# Altium schematic symbol library Lib_001.SchLib: 489 symbols (part 1 of 4)
Pins are listed as number, name and electrical type; pins without a type are passive.

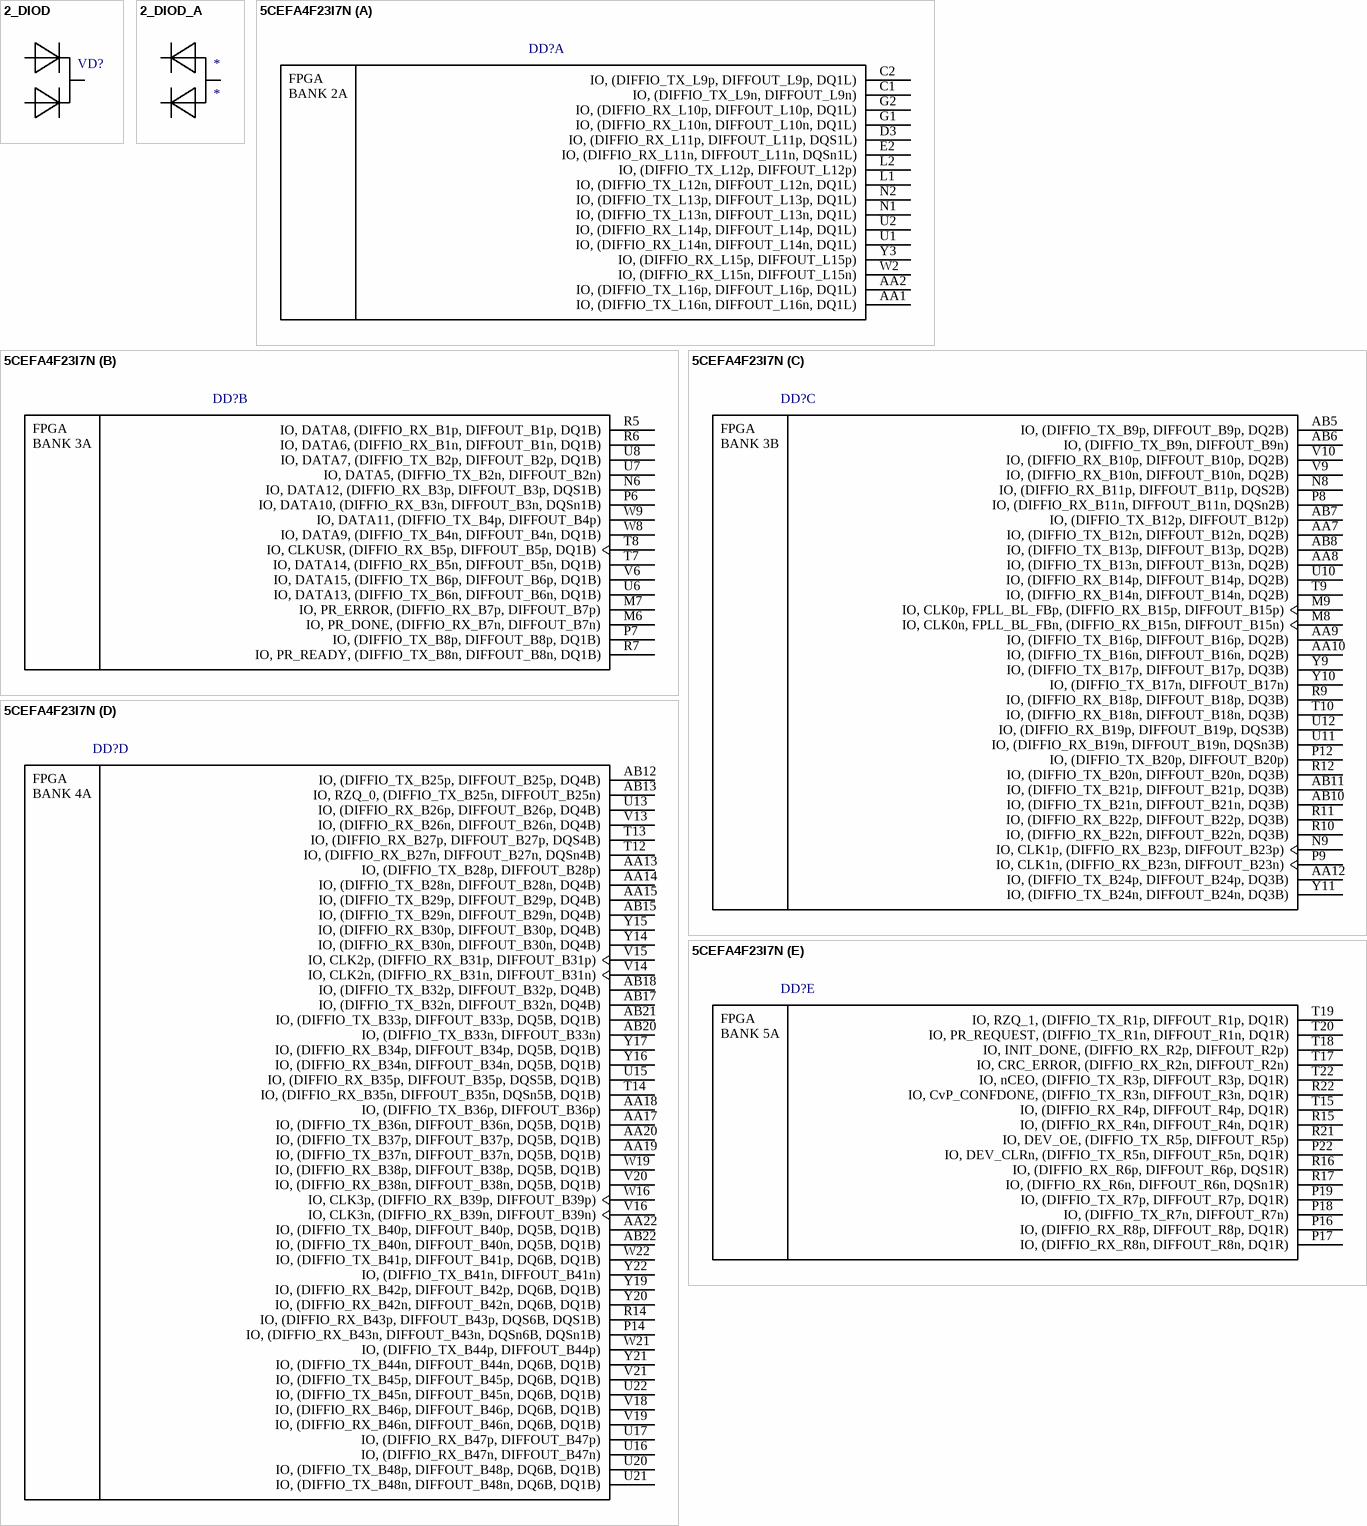
[diagram p0: symbols 2_DIOD to 5CEFA4F23I7N]

## 2_DIOD
designator VD?, comment 12СWQ10FN  (value not drawn)
value: 12СWQ10FN
footprint D2PAK (D2-PAK, 4-Leads, Body 8.8x10.4mm, Pitch 2.54mm, Lead Span 15.1mm, IPC Low Density)
pins: 1 A1, 2 C, 3 A2

## 2_DIOD_A
designator *
pins: 1 C1, 2 A, 3 C2

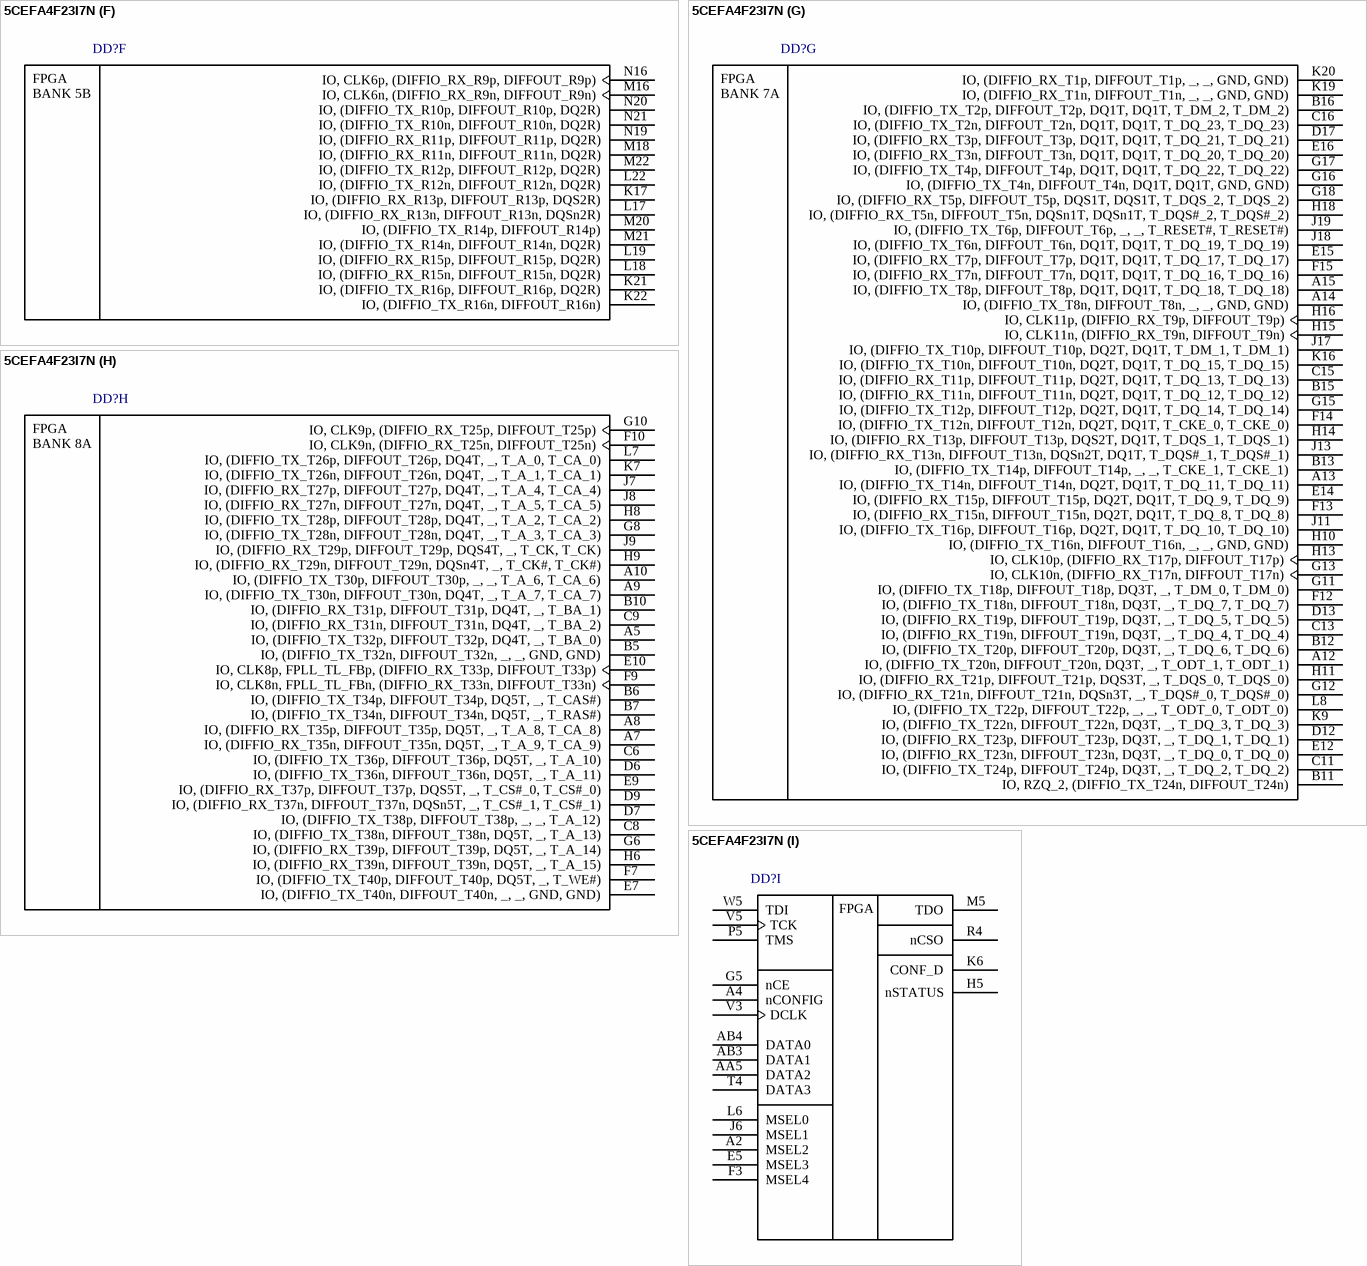
[diagram p1: symbol 5CEFA4F23I7N]

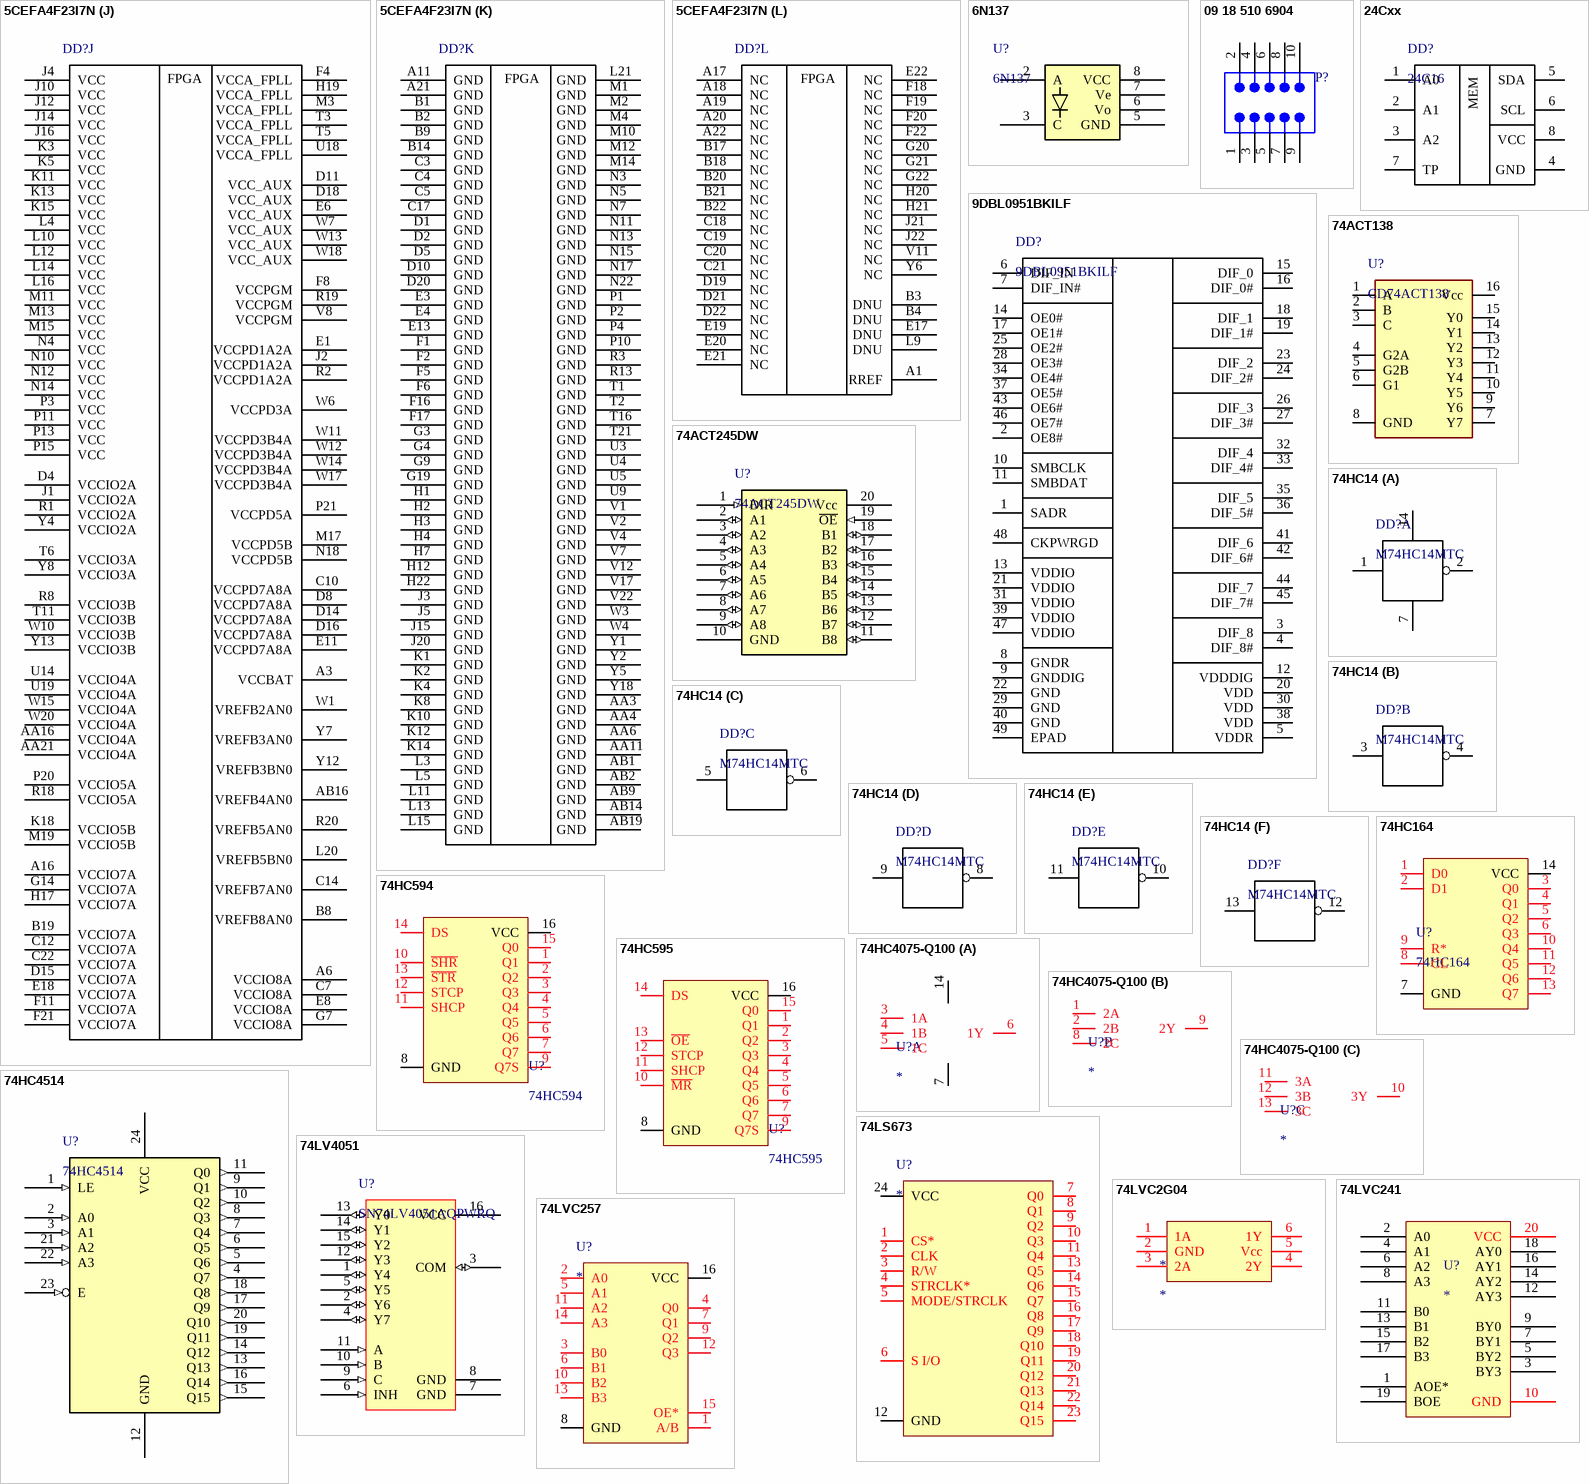
[diagram p2: symbols 5CEFA4F23I7N to 74LVC257]

## 5CEFA4F23I7N
designator DD?
Cyclone V E Family FPGA, 1.07 to 1.13 V Supply, 224 I/O Pins, 4 PLLs, 484-Pin FBGA, Speed Grade 7, Industrial Grade, RoHS Compliant; Manufacturer: Altera; Device Group: 5CEFA4; GPIO: 224; Logic Elements (LE) (K): 49; Speed Grade: 7; NexusDeviceID: 5CEFA4F23I7N; DatasheetVersion: Rev. 3.4; PackageVersion: Rev. 2.0, 12/2012; PackageReference: FBGA484_A-200; PackageDescription: 484-Pin FineLine Ball-Grid Array (FBGA), Body 23 x 23 mm, Pitch 1 mm; Supplier 1: Digi-Key; Supplier Part Number 1: 5CEFA4F23I7N-ND; Supplier 2: Mouser; Supplier Part Number 2: 989-5CEFA4F23I7N; RoHS: RoHS Compliant; Subcategory: Cyclone V E; Voltage Supply: 1.07 to 1.13 V; Mounting Technology: Surface Mount; Code_JEDEC: MS-034; PartNumber: 5CEFA4F23I7N; ComponentLink1Description: Manufacturer URL; ComponentLink1URL: http://www.altera.com; ComponentLink2Description: Datasheet; ComponentLink2URL: http://www.altera.com/literature/hb/cyclone-v/cv_51002.pdf; ComponentLink3Description: Package Specification; ComponentLink3URL: http://www.altera.com/devicepackaging/04R00434-01.pdf; ComponentLink4Description: Device Handbook URL; ComponentLink4URL: http://www.altera.com/literature/hb/cyclone-v/cyclone5_handbook.pdf; ComponentLink5Description: Device Pin-Out URL; ComponentLink5URL: http://www.altera.com/literature/dp/cyclone-v/5CEFA4.xls; ComponentLink6Description: Device Overview URL; ComponentLink6URL: http://www.altera.com/literature/hb/cyclone-v/cv_51001.pdf; ComponentLink7Description: Product URL; ComponentLink7URL: http://www.buyaltera.com/scripts/partsearch.dll?Detail&name=5CEFA4F23I7N-ND
footprint ALTR-FBGA484_A-200 (BGA, 484-Balls, Body 23x23mm, Pitch 1mm)
part A pins: AA1 IO, (DIFFIO_TX_L16n, DIFFOUT_L16n, DQ1L), AA2 IO, (DIFFIO_TX_L16p, DIFFOUT_L16p, DQ1L), C1 IO, (DIFFIO_TX_L9n, DIFFOUT_L9n), C2 IO, (DIFFIO_TX_L9p, DIFFOUT_L9p, DQ1L), D3 IO, (DIFFIO_RX_L11p, DIFFOUT_L11p, DQS1L), E2 IO, (DIFFIO_RX_L11n, DIFFOUT_L11n, DQSn1L), G1 IO, (DIFFIO_RX_L10n, DIFFOUT_L10n, DQ1L), G2 IO, (DIFFIO_RX_L10p, DIFFOUT_L10p, DQ1L), L1 IO, (DIFFIO_TX_L12n, DIFFOUT_L12n, DQ1L), L2 IO, (DIFFIO_TX_L12p, DIFFOUT_L12p), N1 IO, (DIFFIO_TX_L13n, DIFFOUT_L13n, DQ1L), N2 IO, (DIFFIO_TX_L13p, DIFFOUT_L13p, DQ1L), U1 IO, (DIFFIO_RX_L14n, DIFFOUT_L14n, DQ1L), U2 IO, (DIFFIO_RX_L14p, DIFFOUT_L14p, DQ1L), W2 IO, (DIFFIO_RX_L15n, DIFFOUT_L15n), Y3 IO, (DIFFIO_RX_L15p, DIFFOUT_L15p)
part B pins: M6 IO, PR_DONE, (DIFFIO_RX_B7n, DIFFOUT_B7n), M7 IO, PR_ERROR, (DIFFIO_RX_B7p, DIFFOUT_B7p), N6 IO, DATA12, (DIFFIO_RX_B3p, DIFFOUT_B3p, DQS1B), P6 IO, DATA10, (DIFFIO_RX_B3n, DIFFOUT_B3n, DQSn1B), P7 IO, (DIFFIO_TX_B8p, DIFFOUT_B8p, DQ1B), R5 IO, DATA8, (DIFFIO_RX_B1p, DIFFOUT_B1p, DQ1B), R6 IO, DATA6, (DIFFIO_RX_B1n, DIFFOUT_B1n, DQ1B), R7 IO, PR_READY, (DIFFIO_TX_B8n, DIFFOUT_B8n, DQ1B), T7 IO, DATA14, (DIFFIO_RX_B5n, DIFFOUT_B5n, DQ1B), T8 IO, CLKUSR, (DIFFIO_RX_B5p, DIFFOUT_B5p, DQ1B), U6 IO, DATA13, (DIFFIO_TX_B6n, DIFFOUT_B6n, DQ1B), U7 IO, DATA5, (DIFFIO_TX_B2n, DIFFOUT_B2n), U8 IO, DATA7, (DIFFIO_TX_B2p, DIFFOUT_B2p, DQ1B), V6 IO, DATA15, (DIFFIO_TX_B6p, DIFFOUT_B6p, DQ1B), W8 IO, DATA9, (DIFFIO_TX_B4n, DIFFOUT_B4n, DQ1B), W9 IO, DATA11, (DIFFIO_TX_B4p, DIFFOUT_B4p)
part C pins: AA7 IO, (DIFFIO_TX_B12n, DIFFOUT_B12n, DQ2B), AA8 IO, (DIFFIO_TX_B13n, DIFFOUT_B13n, DQ2B), AA9 IO, (DIFFIO_TX_B16p, DIFFOUT_B16p, DQ2B), AA10 IO, (DIFFIO_TX_B16n, DIFFOUT_B16n, DQ2B), AA12 IO, (DIFFIO_TX_B24p, DIFFOUT_B24p, DQ3B), AB5 IO, (DIFFIO_TX_B9p, DIFFOUT_B9p, DQ2B), AB6 IO, (DIFFIO_TX_B9n, DIFFOUT_B9n), AB7 IO, (DIFFIO_TX_B12p, DIFFOUT_B12p), AB8 IO, (DIFFIO_TX_B13p, DIFFOUT_B13p, DQ2B), AB10 IO, (DIFFIO_TX_B21n, DIFFOUT_B21n, DQ3B), AB11 IO, (DIFFIO_TX_B21p, DIFFOUT_B21p, DQ3B), M8 IO, CLK0n, FPLL_BL_FBn, (DIFFIO_RX_B15n, DIFFOUT_B15n), M9 IO, CLK0p, FPLL_BL_FBp, (DIFFIO_RX_B15p, DIFFOUT_B15p), N8 IO, (DIFFIO_RX_B11p, DIFFOUT_B11p, DQS2B), N9 IO, CLK1p, (DIFFIO_RX_B23p, DIFFOUT_B23p), P8 IO, (DIFFIO_RX_B11n, DIFFOUT_B11n, DQSn2B), P9 IO, CLK1n, (DIFFIO_RX_B23n, DIFFOUT_B23n), P12 IO, (DIFFIO_TX_B20p, DIFFOUT_B20p), R9 IO, (DIFFIO_RX_B18p, DIFFOUT_B18p, DQ3B), R10 IO, (DIFFIO_RX_B22n, DIFFOUT_B22n, DQ3B), R11 IO, (DIFFIO_RX_B22p, DIFFOUT_B22p, DQ3B), R12 IO, (DIFFIO_TX_B20n, DIFFOUT_B20n, DQ3B), T9 IO, (DIFFIO_RX_B14n, DIFFOUT_B14n, DQ2B), T10 IO, (DIFFIO_RX_B18n, DIFFOUT_B18n, DQ3B), U10 IO, (DIFFIO_RX_B14p, DIFFOUT_B14p, DQ2B), U11 IO, (DIFFIO_RX_B19n, DIFFOUT_B19n, DQSn3B), U12 IO, (DIFFIO_RX_B19p, DIFFOUT_B19p, DQS3B), V9 IO, (DIFFIO_RX_B10n, DIFFOUT_B10n, DQ2B), V10 IO, (DIFFIO_RX_B10p, DIFFOUT_B10p, DQ2B), Y9 IO, (DIFFIO_TX_B17p, DIFFOUT_B17p, DQ3B), Y10 IO, (DIFFIO_TX_B17n, DIFFOUT_B17n), Y11 IO, (DIFFIO_TX_B24n, DIFFOUT_B24n, DQ3B)
part D pins: AA13 IO, (DIFFIO_TX_B28p, DIFFOUT_B28p), AA14 IO, (DIFFIO_TX_B28n, DIFFOUT_B28n, DQ4B), AA15 IO, (DIFFIO_TX_B29p, DIFFOUT_B29p, DQ4B), AA17 IO, (DIFFIO_TX_B36n, DIFFOUT_B36n, DQ5B, DQ1B), AA18 IO, (DIFFIO_TX_B36p, DIFFOUT_B36p), AA19 IO, (DIFFIO_TX_B37n, DIFFOUT_B37n, DQ5B, DQ1B), AA20 IO, (DIFFIO_TX_B37p, DIFFOUT_B37p, DQ5B, DQ1B), AA22 IO, (DIFFIO_TX_B40p, DIFFOUT_B40p, DQ5B, DQ1B), AB12 IO, (DIFFIO_TX_B25p, DIFFOUT_B25p, DQ4B), AB13 IO, RZQ_0, (DIFFIO_TX_B25n, DIFFOUT_B25n), AB15 IO, (DIFFIO_TX_B29n, DIFFOUT_B29n, DQ4B), AB17 IO, (DIFFIO_TX_B32n, DIFFOUT_B32n, DQ4B), AB18 IO, (DIFFIO_TX_B32p, DIFFOUT_B32p, DQ4B), AB20 IO, (DIFFIO_TX_B33n, DIFFOUT_B33n), AB21 IO, (DIFFIO_TX_B33p, DIFFOUT_B33p, DQ5B, DQ1B), AB22 IO, (DIFFIO_TX_B40n, DIFFOUT_B40n, DQ5B, DQ1B), P14 IO, (DIFFIO_RX_B43n, DIFFOUT_B43n, DQSn6B, DQSn1B), R14 IO, (DIFFIO_RX_B43p, DIFFOUT_B43p, DQS6B, DQS1B), T12 IO, (DIFFIO_RX_B27n, DIFFOUT_B27n, DQSn4B), T13 IO, (DIFFIO_RX_B27p, DIFFOUT_B27p, DQS4B), T14 IO, (DIFFIO_RX_B35n, DIFFOUT_B35n, DQSn5B, DQ1B), U13 IO, (DIFFIO_RX_B26p, DIFFOUT_B26p, DQ4B), U15 IO, (DIFFIO_RX_B35p, DIFFOUT_B35p, DQS5B, DQ1B), U16 IO, (DIFFIO_RX_B47n, DIFFOUT_B47n), U17 IO, (DIFFIO_RX_B47p, DIFFOUT_B47p), U20 IO, (DIFFIO_TX_B48p, DIFFOUT_B48p, DQ6B, DQ1B), U21 IO, (DIFFIO_TX_B48n, DIFFOUT_B48n, DQ6B, DQ1B), U22 IO, (DIFFIO_TX_B45n, DIFFOUT_B45n, DQ6B, DQ1B), V13 IO, (DIFFIO_RX_B26n, DIFFOUT_B26n, DQ4B), V14 IO, CLK2n, (DIFFIO_RX_B31n, DIFFOUT_B31n), V15 IO, CLK2p, (DIFFIO_RX_B31p, DIFFOUT_B31p), V16 IO, CLK3n, (DIFFIO_RX_B39n, DIFFOUT_B39n), V18 IO, (DIFFIO_RX_B46p, DIFFOUT_B46p, DQ6B, DQ1B), V19 IO, (DIFFIO_RX_B46n, DIFFOUT_B46n, DQ6B, DQ1B), V20 IO, (DIFFIO_RX_B38n, DIFFOUT_B38n, DQ5B, DQ1B), V21 IO, (DIFFIO_TX_B45p, DIFFOUT_B45p, DQ6B, DQ1B), W16 IO, CLK3p, (DIFFIO_RX_B39p, DIFFOUT_B39p), W19 IO, (DIFFIO_RX_B38p, DIFFOUT_B38p, DQ5B, DQ1B), W21 IO, (DIFFIO_TX_B44p, DIFFOUT_B44p), W22 IO, (DIFFIO_TX_B41p, DIFFOUT_B41p, DQ6B, DQ1B), Y14 IO, (DIFFIO_RX_B30n, DIFFOUT_B30n, DQ4B), Y15 IO, (DIFFIO_RX_B30p, DIFFOUT_B30p, DQ4B), Y16 IO, (DIFFIO_RX_B34n, DIFFOUT_B34n, DQ5B, DQ1B), Y17 IO, (DIFFIO_RX_B34p, DIFFOUT_B34p, DQ5B, DQ1B), Y19 IO, (DIFFIO_RX_B42p, DIFFOUT_B42p, DQ6B, DQ1B), Y20 IO, (DIFFIO_RX_B42n, DIFFOUT_B42n, DQ6B, DQ1B), Y21 IO, (DIFFIO_TX_B44n, DIFFOUT_B44n, DQ6B, DQ1B), Y22 IO, (DIFFIO_TX_B41n, DIFFOUT_B41n)
part E pins: P16 IO, (DIFFIO_RX_R8p, DIFFOUT_R8p, DQ1R), P17 IO, (DIFFIO_RX_R8n, DIFFOUT_R8n, DQ1R), P18 IO, (DIFFIO_TX_R7n, DIFFOUT_R7n), P19 IO, (DIFFIO_TX_R7p, DIFFOUT_R7p, DQ1R), P22 IO, DEV_CLRn, (DIFFIO_TX_R5n, DIFFOUT_R5n, DQ1R), R15 IO, (DIFFIO_RX_R4n, DIFFOUT_R4n, DQ1R), R16 IO, (DIFFIO_RX_R6p, DIFFOUT_R6p, DQS1R), R17 IO, (DIFFIO_RX_R6n, DIFFOUT_R6n, DQSn1R), R21 IO, DEV_OE, (DIFFIO_TX_R5p, DIFFOUT_R5p), R22 IO, CvP_CONFDONE, (DIFFIO_TX_R3n, DIFFOUT_R3n, DQ1R), T15 IO, (DIFFIO_RX_R4p, DIFFOUT_R4p, DQ1R), T17 IO, CRC_ERROR, (DIFFIO_RX_R2n, DIFFOUT_R2n), T18 IO, INIT_DONE, (DIFFIO_RX_R2p, DIFFOUT_R2p), T19 IO, RZQ_1, (DIFFIO_TX_R1p, DIFFOUT_R1p, DQ1R), T20 IO, PR_REQUEST, (DIFFIO_TX_R1n, DIFFOUT_R1n, DQ1R), T22 IO, nCEO, (DIFFIO_TX_R3p, DIFFOUT_R3p, DQ1R)
part F pins: K17 IO, (DIFFIO_RX_R13p, DIFFOUT_R13p, DQS2R), K21 IO, (DIFFIO_TX_R16p, DIFFOUT_R16p, DQ2R), K22 IO, (DIFFIO_TX_R16n, DIFFOUT_R16n), L17 IO, (DIFFIO_RX_R13n, DIFFOUT_R13n, DQSn2R), L18 IO, (DIFFIO_RX_R15n, DIFFOUT_R15n, DQ2R), L19 IO, (DIFFIO_RX_R15p, DIFFOUT_R15p, DQ2R), L22 IO, (DIFFIO_TX_R12n, DIFFOUT_R12n, DQ2R), M16 IO, CLK6n, (DIFFIO_RX_R9n, DIFFOUT_R9n), M18 IO, (DIFFIO_RX_R11n, DIFFOUT_R11n, DQ2R), M20 IO, (DIFFIO_TX_R14p, DIFFOUT_R14p), M21 IO, (DIFFIO_TX_R14n, DIFFOUT_R14n, DQ2R), M22 IO, (DIFFIO_TX_R12p, DIFFOUT_R12p, DQ2R), N16 IO, CLK6p, (DIFFIO_RX_R9p, DIFFOUT_R9p), N19 IO, (DIFFIO_RX_R11p, DIFFOUT_R11p, DQ2R), N20 IO, (DIFFIO_TX_R10p, DIFFOUT_R10p, DQ2R), N21 IO, (DIFFIO_TX_R10n, DIFFOUT_R10n, DQ2R)
part G pins: A12 IO, (DIFFIO_TX_T20n, DIFFOUT_T20n, DQ3T, _, T_ODT_1, T_ODT_1), A13 IO, (DIFFIO_TX_T14n, DIFFOUT_T14n, DQ2T, DQ1T, T_DQ_11, T_DQ_11), A14 IO, (DIFFIO_TX_T8n, DIFFOUT_T8n, _, _, GND, GND), A15 IO, (DIFFIO_TX_T8p, DIFFOUT_T8p, DQ1T, DQ1T, T_DQ_18, T_DQ_18), B11 IO, RZQ_2, (DIFFIO_TX_T24n, DIFFOUT_T24n), B12 IO, (DIFFIO_TX_T20p, DIFFOUT_T20p, DQ3T, _, T_DQ_6, T_DQ_6), B13 IO, (DIFFIO_TX_T14p, DIFFOUT_T14p, _, _, T_CKE_1, T_CKE_1), B15 IO, (DIFFIO_RX_T11n, DIFFOUT_T11n, DQ2T, DQ1T, T_DQ_12, T_DQ_12), B16 IO, (DIFFIO_TX_T2p, DIFFOUT_T2p, DQ1T, DQ1T, T_DM_2, T_DM_2), C11 IO, (DIFFIO_TX_T24p, DIFFOUT_T24p, DQ3T, _, T_DQ_2, T_DQ_2), C13 IO, (DIFFIO_RX_T19n, DIFFOUT_T19n, DQ3T, _, T_DQ_4, T_DQ_4), C15 IO, (DIFFIO_RX_T11p, DIFFOUT_T11p, DQ2T, DQ1T, T_DQ_13, T_DQ_13), C16 IO, (DIFFIO_TX_T2n, DIFFOUT_T2n, DQ1T, DQ1T, T_DQ_23, T_DQ_23), D12 IO, (DIFFIO_RX_T23p, DIFFOUT_T23p, DQ3T, _, T_DQ_1, T_DQ_1), D13 IO, (DIFFIO_RX_T19p, DIFFOUT_T19p, DQ3T, _, T_DQ_5, T_DQ_5), D17 IO, (DIFFIO_RX_T3p, DIFFOUT_T3p, DQ1T, DQ1T, T_DQ_21, T_DQ_21), E12 IO, (DIFFIO_RX_T23n, DIFFOUT_T23n, DQ3T, _, T_DQ_0, T_DQ_0), E14 IO, (DIFFIO_RX_T15p, DIFFOUT_T15p, DQ2T, DQ1T, T_DQ_9, T_DQ_9), E15 IO, (DIFFIO_RX_T7p, DIFFOUT_T7p, DQ1T, DQ1T, T_DQ_17, T_DQ_17), E16 IO, (DIFFIO_RX_T3n, DIFFOUT_T3n, DQ1T, DQ1T, T_DQ_20, T_DQ_20), F12 IO, (DIFFIO_TX_T18n, DIFFOUT_T18n, DQ3T, _, T_DQ_7, T_DQ_7), F13 IO, (DIFFIO_RX_T15n, DIFFOUT_T15n, DQ2T, DQ1T, T_DQ_8, T_DQ_8), F14 IO, (DIFFIO_TX_T12n, DIFFOUT_T12n, DQ2T, DQ1T, T_CKE_0, T_CKE_0), F15 IO, (DIFFIO_RX_T7n, DIFFOUT_T7n, DQ1T, DQ1T, T_DQ_16, T_DQ_16), G11 IO, (DIFFIO_TX_T18p, DIFFOUT_T18p, DQ3T, _, T_DM_0, T_DM_0), G12 IO, (DIFFIO_RX_T21n, DIFFOUT_T21n, DQSn3T, _, T_DQS#_0, T_DQS#_0), G13 IO, CLK10n, (DIFFIO_RX_T17n, DIFFOUT_T17n), G15 IO, (DIFFIO_TX_T12p, DIFFOUT_T12p, DQ2T, DQ1T, T_DQ_14, T_DQ_14), G16 IO, (DIFFIO_TX_T4n, DIFFOUT_T4n, DQ1T, DQ1T, GND, GND), G17 IO, (DIFFIO_TX_T4p, DIFFOUT_T4p, DQ1T, DQ1T, T_DQ_22, T_DQ_22), G18 IO, (DIFFIO_RX_T5p, DIFFOUT_T5p, DQS1T, DQS1T, T_DQS_2, T_DQS_2), H10 IO, (DIFFIO_TX_T16n, DIFFOUT_T16n, _, _, GND, GND), H11 IO, (DIFFIO_RX_T21p, DIFFOUT_T21p, DQS3T, _, T_DQS_0, T_DQS_0), H13 IO, CLK10p, (DIFFIO_RX_T17p, DIFFOUT_T17p), H14 IO, (DIFFIO_RX_T13p, DIFFOUT_T13p, DQS2T, DQ1T, T_DQS_1, T_DQS_1), H15 IO, CLK11n, (DIFFIO_RX_T9n, DIFFOUT_T9n), H16 IO, CLK11p, (DIFFIO_RX_T9p, DIFFOUT_T9p), H18 IO, (DIFFIO_RX_T5n, DIFFOUT_T5n, DQSn1T, DQSn1T, T_DQS#_2, T_DQS#_2), J11 IO, (DIFFIO_TX_T16p, DIFFOUT_T16p, DQ2T, DQ1T, T_DQ_10, T_DQ_10), J13 IO, (DIFFIO_RX_T13n, DIFFOUT_T13n, DQSn2T, DQ1T, T_DQS#_1, T_DQS#_1), J17 IO, (DIFFIO_TX_T10p, DIFFOUT_T10p, DQ2T, DQ1T, T_DM_1, T_DM_1), J18 IO, (DIFFIO_TX_T6n, DIFFOUT_T6n, DQ1T, DQ1T, T_DQ_19, T_DQ_19), J19 IO, (DIFFIO_TX_T6p, DIFFOUT_T6p, _, _, T_RESET#, T_RESET#), K9 IO, (DIFFIO_TX_T22n, DIFFOUT_T22n, DQ3T, _, T_DQ_3, T_DQ_3), K16 IO, (DIFFIO_TX_T10n, DIFFOUT_T10n, DQ2T, DQ1T, T_DQ_15, T_DQ_15), K19 IO, (DIFFIO_RX_T1n, DIFFOUT_T1n, _, _, GND, GND), K20 IO, (DIFFIO_RX_T1p, DIFFOUT_T1p, _, _, GND, GND), L8 IO, (DIFFIO_TX_T22p, DIFFOUT_T22p, _, _, T_ODT_0, T_ODT_0)
part H pins: A5 IO, (DIFFIO_TX_T32p, DIFFOUT_T32p, DQ4T, _, T_BA_0), A7 IO, (DIFFIO_RX_T35n, DIFFOUT_T35n, DQ5T, _, T_A_9, T_CA_9), A8 IO, (DIFFIO_RX_T35p, DIFFOUT_T35p, DQ5T, _, T_A_8, T_CA_8), A9 IO, (DIFFIO_TX_T30n, DIFFOUT_T30n, DQ4T, _, T_A_7, T_CA_7), A10 IO, (DIFFIO_TX_T30p, DIFFOUT_T30p, _, _, T_A_6, T_CA_6), B5 IO, (DIFFIO_TX_T32n, DIFFOUT_T32n, _, _, GND, GND), B6 IO, (DIFFIO_TX_T34p, DIFFOUT_T34p, DQ5T, _, T_CAS#), B7 IO, (DIFFIO_TX_T34n, DIFFOUT_T34n, DQ5T, _, T_RAS#), B10 IO, (DIFFIO_RX_T31p, DIFFOUT_T31p, DQ4T, _, T_BA_1), C6 IO, (DIFFIO_TX_T36p, DIFFOUT_T36p, DQ5T, _, T_A_10), C8 IO, (DIFFIO_TX_T38n, DIFFOUT_T38n, DQ5T, _, T_A_13), C9 IO, (DIFFIO_RX_T31n, DIFFOUT_T31n, DQ4T, _, T_BA_2), D6 IO, (DIFFIO_TX_T36n, DIFFOUT_T36n, DQ5T, _, T_A_11), D7 IO, (DIFFIO_TX_T38p, DIFFOUT_T38p, _, _, T_A_12), D9 IO, (DIFFIO_RX_T37n, DIFFOUT_T37n, DQSn5T, _, T_CS#_1, T_CS#_1), E7 IO, (DIFFIO_TX_T40n, DIFFOUT_T40n, _, _, GND, GND), E9 IO, (DIFFIO_RX_T37p, DIFFOUT_T37p, DQS5T, _, T_CS#_0, T_CS#_0), E10 IO, CLK8p, FPLL_TL_FBp, (DIFFIO_RX_T33p, DIFFOUT_T33p), F7 IO, (DIFFIO_TX_T40p, DIFFOUT_T40p, DQ5T, _, T_WE#), F9 IO, CLK8n, FPLL_TL_FBn, (DIFFIO_RX_T33n, DIFFOUT_T33n), F10 IO, CLK9n, (DIFFIO_RX_T25n, DIFFOUT_T25n), G6 IO, (DIFFIO_RX_T39p, DIFFOUT_T39p, DQ5T, _, T_A_14), G8 IO, (DIFFIO_TX_T28n, DIFFOUT_T28n, DQ4T, _, T_A_3, T_CA_3), G10 IO, CLK9p, (DIFFIO_RX_T25p, DIFFOUT_T25p), H6 IO, (DIFFIO_RX_T39n, DIFFOUT_T39n, DQ5T, _, T_A_15), H8 IO, (DIFFIO_TX_T28p, DIFFOUT_T28p, DQ4T, _, T_A_2, T_CA_2), H9 IO, (DIFFIO_RX_T29n, DIFFOUT_T29n, DQSn4T, _, T_CK#, T_CK#), J7 IO, (DIFFIO_RX_T27p, DIFFOUT_T27p, DQ4T, _, T_A_4, T_CA_4), J8 IO, (DIFFIO_RX_T27n, DIFFOUT_T27n, DQ4T, _, T_A_5, T_CA_5), J9 IO, (DIFFIO_RX_T29p, DIFFOUT_T29p, DQS4T, _, T_CK, T_CK), K7 IO, (DIFFIO_TX_T26n, DIFFOUT_T26n, DQ4T, _, T_A_1, T_CA_1), L7 IO, (DIFFIO_TX_T26p, DIFFOUT_T26p, DQ4T, _, T_A_0, T_CA_0)
part I pins: A2 MSEL2, A4 nCONFIG, AA5 DATA2, AB3 DATA1, AB4 DATA0, E5 MSEL3, F3 MSEL4, G5 nCE, H5 nSTATUS, J6 MSEL1, K6 CONF_D, L6 MSEL0, M5 TDO, P5 TMS, R4 nCSO, T4 DATA3, V3 DCLK, V5 TCK, W5 TDI
part J pins: A3 VCCBAT (power), A6 VCCIO8A (power), A16 VCCIO7A (power), AA16 VCCIO4A (power), AA21 VCCIO4A (power), AB16 VREFB4AN0 (power), B8 VREFB8AN0 (power), B19 VCCIO7A (power), C7 VCCIO8A (power), C10 VCCPD7A8A (power), C12 VCCIO7A (power), C14 VREFB7AN0 (power), C22 VCCIO7A (power), D4 VCCIO2A (power), D8 VCCPD7A8A (power), D11 VCC_AUX (power), D14 VCCPD7A8A (power), D15 VCCIO7A (power), D16 VCCPD7A8A (power), D18 VCC_AUX (power), E1 VCCPD1A2A (power), E6 VCC_AUX (power), E8 VCCIO8A (power), E11 VCCPD7A8A (power), E18 VCCIO7A (power), F4 VCCA_FPLL (power), F8 VCCPGM (power), F11 VCCIO7A (power), F21 VCCIO7A (power), G7 VCCIO8A (power), G14 VCCIO7A (power), H17 VCCIO7A (power), H19 VCCA_FPLL (power), J1 VCCIO2A (power), J2 VCCPD1A2A (power), J4 VCC (power), J10 VCC (power), J12 VCC (power), J14 VCC (power), J16 VCC (power), K3 VCC (power), K5 VCC (power), K11 VCC (power), K13 VCC (power), K15 VCC (power), K18 VCCIO5B (power), L4 VCC (power), L10 VCC (power), L12 VCC (power), L14 VCC (power), L16 VCC (power), L20 VREFB5BN0 (power), M3 VCCA_FPLL (power), M11 VCC (power), M13 VCC (power), M15 VCC (power), M17 VCCPD5B (power), M19 VCCIO5B (power), N4 VCC (power), N10 VCC (power), N12 VCC (power), N14 VCC (power), N18 VCCPD5B (power), P3 VCC (power), P11 VCC (power), P13 VCC (power), P15 VCC (power), P20 VCCIO5A (power), P21 VCCPD5A (power), R1 VCCIO2A (power), R2 VCCPD1A2A (power), R8 VCCIO3B (power), R18 VCCIO5A (power), R19 VCCPGM (power), R20 VREFB5AN0 (power), T3 VCCA_FPLL (power), T5 VCCA_FPLL (power), T6 VCCIO3A (power), T11 VCCIO3B (power), U14 VCCIO4A (power), U18 VCCA_FPLL (power), U19 VCCIO4A (power), V8 VCCPGM (power), W1 VREFB2AN0 (power), W6 VCCPD3A (power), W7 VCC_AUX (power), W10 VCCIO3B (power), W11 VCCPD3B4A (power), W12 VCCPD3B4A (power), W13 VCC_AUX (power), W14 VCCPD3B4A (power), W15 VCCIO4A (power), W17 VCCPD3B4A (power), W18 VCC_AUX (power), W20 VCCIO4A (power), Y4 VCCIO2A (power), Y7 VREFB3AN0 (power), Y8 VCCIO3A (power), Y12 VREFB3BN0 (power), Y13 VCCIO3B (power)
part K pins: A11 GND (power), A21 GND (power), AA3 GND (power), AA4 GND (power), AA6 GND (power), AA11 GND (power), AB1 GND (power), AB2 GND (power), AB9 GND (power), AB14 GND (power), AB19 GND (power), B1 GND (power), B2 GND (power), B9 GND (power), B14 GND (power), C3 GND (power), C4 GND (power), C5 GND (power), C17 GND (power), D1 GND (power), D2 GND (power), D5 GND (power), D10 GND (power), D20 GND (power), E3 GND (power), E4 GND (power), E13 GND (power), F1 GND (power), F2 GND (power), F5 GND (power), F6 GND (power), F16 GND (power), F17 GND (power), G3 GND (power), G4 GND (power), G9 GND (power), G19 GND (power), H1 GND (power), H2 GND (power), H3 GND (power), H4 GND (power), H7 GND (power), H12 GND (power), H22 GND (power), J3 GND (power), J5 GND (power), J15 GND (power), J20 GND (power), K1 GND (power), K2 GND (power), K4 GND (power), K8 GND (power), K10 GND (power), K12 GND (power), K14 GND (power), L3 GND (power), L5 GND (power), L11 GND (power), L13 GND (power), L15 GND (power), L21 GND (power), M1 GND (power), M2 GND (power), M4 GND (power), M10 GND (power), M12 GND (power), M14 GND (power), N3 GND (power), N5 GND (power), N7 GND (power), N11 GND (power), N13 GND (power), N15 GND (power), N17 GND (power), N22 GND (power), P1 GND (power), P2 GND (power), P4 GND (power), P10 GND (power), R3 GND (power), R13 GND (power), T1 GND (power), T2 GND (power), T16 GND (power), T21 GND (power), U3 GND (power), U4 GND (power), U5 GND (power), U9 GND (power), V1 GND (power), V2 GND (power), V4 GND (power), V7 GND (power), V12 GND (power), V17 GND (power), V22 GND (power), W3 GND (power), W4 GND (power), Y1 GND (power), Y2 GND (power), Y5 GND (power), Y18 GND (power)
part L pins: A1 RREF, A17 NC, A18 NC, A19 NC, A20 NC, A22 NC, B3 DNU, B4 DNU, B17 NC, B18 NC, B20 NC, B21 NC, B22 NC, C18 NC, C19 NC, C20 NC, C21 NC, D19 NC, D21 NC, D22 NC, E17 DNU, E19 NC, E20 NC, E21 NC, E22 NC, F18 NC, F19 NC, F20 NC, F22 NC, G20 NC, G21 NC, G22 NC, H20 NC, H21 NC, J21 NC, J22 NC, L9 DNU, V11 NC, Y6 NC
part A text: FPGA; BANK 2A
part B text: FPGA; BANK 3A
part C text: FPGA; BANK 3B
part D text: FPGA; BANK 4A
part E text: FPGA; BANK 5A
part F text: FPGA; BANK 5B
part G text: FPGA; BANK 7A
part H text: FPGA; BANK 8A
part I text: FPGA
part J text: FPGA
part K text: FPGA
part L text: FPGA

## 6N137
designator U?
High Speed Optocoupler, 10 Mbd; value: 6N137
footprint DIP8_300mil
pins: 2 A, 3 C, 5 GND, 6 Vo, 7 Ve, 8 VCC

## 09 18 510 6904
designator P?
Flat Cable Connector (IDC), Standard Male Header, Straight Solder Pin, 10 Contacts, Long Levers, Performance Level 2; PCB_Layout: Complies with manufacturer's recommendation.; DrillSize: Corresponds to nominal value.; Published: 15-Nov-2004; DatasheetDocument: Sep-2003; PackageDocument: Jun-2000; PackageReference: 918510x904; Publisher: Altium Limited; ComponentLink1Description: Manufacturer Link; ComponentLink1URL: http://www.harting.com/; ComponentLink2Description: Selection Guide; ComponentLink2URL: http://www.harting.com/imperia/md/content/steckverbinderundsystemkomponenten/folder/interface_engl_chapter_09.pdf
footprint 918510x904 (Connector; IDC, Thru-Hole; 10 Position; Vertical; Pitch 2.54 mm; Body 32.30 x 8.5 x 25.75 mm (LxWxH), Locking levers)
pins: 1, 2, 3, 4, 5, 6, 7, 8, 9, 10

## 9DBL0951BKILF
designator DD?
value: 9DBL0951BKILF
pins: 1 SADR, 2 OE8#, 3 DIF_8, 4 DIF_8#, 5 VDDR, 6 DIF_IN, 7 DIF_IN#, 8 GNDR, 9 GNDDIG, 10 SMBCLK, 11 SMBDAT, 12 VDDDIG, 13 VDDIO, 14 OE0#, 15 DIF_0, 16 DIF_0#, 17 OE1#, 18 DIF_1, 19 DIF_1#, 20 VDD, 21 VDDIO, 22 GND, 23 DIF_2, 24 DIF_2#, 25 OE2#, 26 DIF_3, 27 DIF_3#, 28 OE3#, 29 GND, 30 VDD, 31 VDDIO, 32 DIF_4, 33 DIF_4#, 34 OE4#, 35 DIF_5, 36 DIF_5#, 37 OE5#, 38 VDD, 39 VDDIO, 40 GND, 41 DIF_6, 42 DIF_6#, 43 OE6#, 44 DIF_7, 45 DIF_7#, 46 OE7#, 47 VDDIO, 48 CKPWRGD, 49 EPAD

## 24Cxx
designator DD?, comment 24C16
SERIAL EEPROM I2C; value: 24C16
footprint SO8 (SOIC, 8-Leads, Body 4.9x3.9mm, Pitch 1.27mm, IPC Medium Density)
pins: 1 A0, 2 A1, 3 A2, 4 GND, 5 SDA, 6 SCL, 7 TP, 8 VCC
text: MEM

## 74ACT138
designator U?, comment CD74ACT138
value: CD74ACT138
footprint SOIC_N 16
pins: 1 A, 2 B, 3 C, 4 G2A, 5 G2B, 6 G1, 7 Y7, 8 GND, 9 Y6, 10 Y5, 11 Y4, 12 Y3, 13 Y2, 14 Y1, 15 Y0, 16 Vcc

## 74ACT245DW
designator U?
OCTAL BUS TRANSCEIVERS  WITH 3-STATE OUTPUTS; value: 74ACT245DW
footprint SO-20-W
pins: 1 DIR (in), 2 A1 (io), 3 A2 (io), 4 A3 (io), 5 A4 (io), 6 A5 (io), 7 A6 (io), 8 A7 (io), 9 A8 (io), 10 GND (power), 11 B8 (io), 12 B7 (io), 13 B6 (io), 14 B5 (io), 15 B4 (io), 16 B3 (io), 17 B2 (io), 18 B1 (io), 19 ~{OE} (in), 20 Vcc (power)

## 74HC14
designator DD?, comment M74HC14MTC
Hex Inverting Schmitt Trigger; value: M74HC14MTC
footprint TSSOP-14
part A pins: 1 A1, 2 Y1, 7 GND, 14 VCC
part B pins: 3 A2, 4 Y2
part C pins: 5 A3, 6 3
part D pins: 8 Y4, 9 A4
part E pins: 10 Y5, 11 A5
part F pins: 12 Y6, 13 A6

## 74HC164
designator U?
value: 74HC164
pins: 1 D0, 2 D1, 3 Q0, 4 Q1, 5 Q2, 6 Q3, 7 GND, 8 CL, 9 R*, 10 Q4, 11 Q5, 12 Q6, 13 Q7, 14 VCC

## 74HC594
designator U?
footprint SO16
pins: 1 Q1, 2 Q2, 3 Q3, 4 Q4, 5 Q5, 6 Q6, 7 Q7, 8 GND, 9 Q7S, 10 ~{SHR}, 11 SHCP, 12 STCP, 13 ~{STR}, 14 DS, 15 Q0, 16 VCC

## 74HC595
designator U?
footprint SO16
pins: 1 Q1, 2 Q2, 3 Q3, 4 Q4, 5 Q5, 6 Q6, 7 Q7, 8 GND, 9 Q7S, 10 ~{MR}, 11 SHCP, 12 STCP, 13 ~{OE}, 14 DS, 15 Q0, 16 VCC

## 74HC4075-Q100
designator U?
part A pins: 3 1A, 4 1B, 5 1C, 6 1Y, 7 GND, 14 VCC
part B pins: 1 2A, 2 2B, 8 2C, 9 2Y
part C pins: 10 3Y, 11 3A, 12 3B, 13 3C

## 74HC4514
designator U?
value: 74HC4514
footprint SO24DW
pins: 1 LE (in), 2 A0 (in), 3 A1 (in), 4 Q7 (out), 5 Q6 (out), 6 Q5 (out), 7 Q4 (out), 8 Q3 (out), 9 Q1 (out), 10 Q2 (out), 11 Q0 (out), 12 GND (power), 13 Q13 (out), 14 Q12 (out), 15 Q15 (out), 16 Q14 (out), 17 Q9 (out), 18 Q8 (out), 19 Q11 (out), 20 Q10 (out), 21 A2 (in), 22 A3 (in), 23 E (in), 24 VCC (power)

## 74LS673
designator U?
pins: 1 CS*, 2 CLK, 3 R/W, 4 STRCLK*, 5 MODE/STRCLK, 6 S I/O, 7 Q0, 8 Q1, 9 Q2, 10 Q3, 11 Q4, 12 GND, 13 Q5, 14 Q6, 15 Q7, 16 Q8, 17 Q9, 18 Q10, 19 Q11, 20 Q12, 21 Q13, 22 Q14, 23 Q15, 24 VCC

## 74LV4051
designator U?, comment SN74LV4051AQPWRQ
1:8 MUX; value: SN74LV4051AQPWRQ
footprint TSSOP16
pins: 1 Y4 (io), 2 Y6 (io), 3 COM (io), 4 Y7 (io), 5 Y5 (io), 6 INH (in), 7 GND (power), 8 GND (power), 9 C (in), 10 B (in), 11 A (in), 12 Y3 (io), 13 Y0 (io), 14 Y1 (io), 15 Y2 (io), 16 VCC (power)

## 74LVC2G04
designator *
pins: 1 1A, 2 GND, 3 2A, 4 2Y, 5 Vcc, 6 1Y

## 74LVC241
designator U?
pins: 1 AOE*, 2 A0, 3 BY3, 4 A1, 5 BY2, 6 A2, 7 BY1, 8 A3, 9 BY0, 10 GND (power), 11 B0, 12 AY3, 13 B1, 14 AY2, 15 B2, 16 AY1, 17 B3, 18 AY0, 19 BOE, 20 VCC (power)

## 74LVC257
designator U?
footprint SOP16
pins: 1 A/B, 2 A0, 3 B0, 4 Q0, 5 A1, 6 B1, 7 Q1, 8 GND, 9 Q2, 10 B2, 11 A2, 12 Q3, 13 B3, 14 A3, 15 OE*, 16 VCC

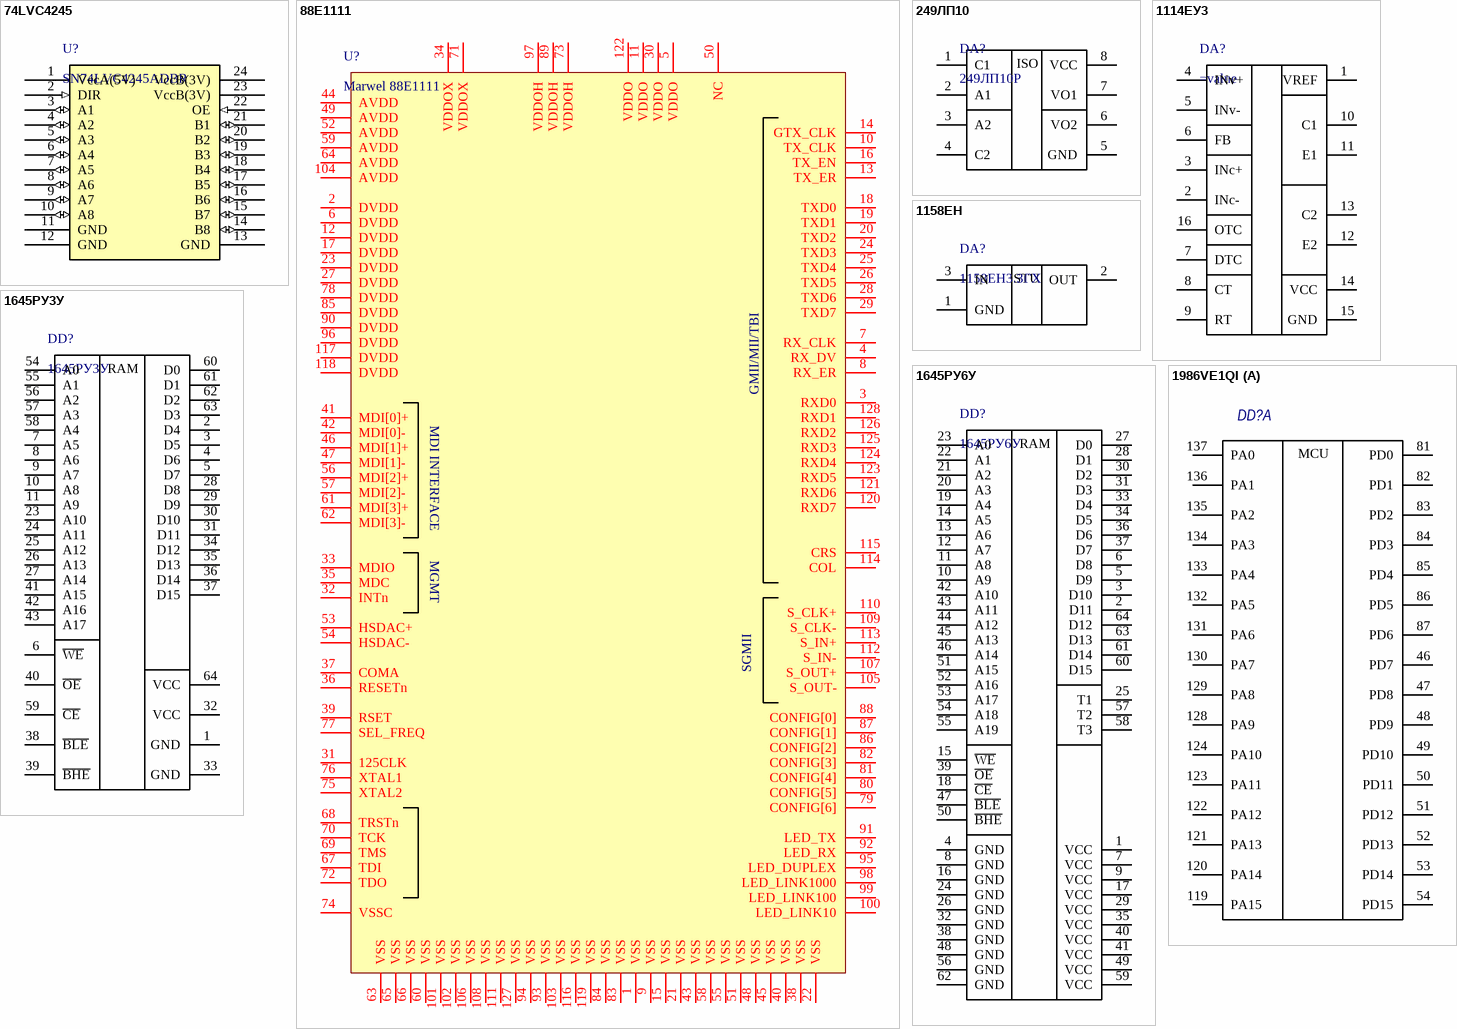
[diagram p3: symbols 74LVC4245 to 1986VE1QI]

## 74LVC4245
designator U?, comment SN74LVC4245ADBR
value: SN74LVC4245ADBR
footprint SSOP-28
pins: 1 VccA(5V) (power), 2 DIR (in), 3 A1 (io), 4 A2 (io), 5 A3 (io), 6 A4 (io), 7 A5 (io), 8 A6 (io), 9 A7 (io), 10 A8 (io), 11 GND (power), 12 GND (power), 13 GND (power), 14 B8 (io), 15 B7 (io), 16 B6 (io), 17 B5 (io), 18 B4 (io), 19 B3 (io), 20 B2 (io), 21 B1 (io), 22 OE (in), 23 VccB(3V) (power), 24 VccB(3V) (power)

## 88E1111
designator U?, comment Marwel 88E1111
pins: 1 VSS, 2 DVDD, 3 RXD0, 4 RX_DV, 5 VDDO, 6 DVDD, 7 RX_CLK, 8 RX_ER, 9 VSS, 10 TX_CLK, 11 VDDO, 12 DVDD, 13 TX_ER, 14 GTX_CLK, 15 VSS, 16 TX_EN, 17 DVDD, 18 TXD0, 19 TXD1, 20 TXD2, 21 VSS, 22 VSS, 23 DVDD, 24 TXD3, 25 TXD4, 26 TXD5, 27 DVDD, 28 TXD6, 29 TXD7, 30 VDDO, 31 125CLK, 32 INTn, 33 MDIO, 34 VDDOX, 35 MDC, 36 RESETn, 37 COMA, 38 VSS, 39 RSET, 40 VSS, 41 MDI[0]+, 42 MDI[0]-, 43 VSS, 44 AVDD, 45 VSS, 46 MDI[1]+, 47 MDI[1]-, 48 VSS, 49 AVDD, 50 NC, 51 VSS, 52 AVDD, 53 HSDAC+, 54 HSDAC-, 55 VSS, 56 MDI[2]+, 57 MDI[2]-, 58 VSS, 59 AVDD, 60 VSS, 61 MDI[3]+, 62 MDI[3]-, 63 VSS, 64 AVDD, 65 VSS, 66 VSS, 67 TDI, 68 TRSTn, 69 TMS, 70 TCK, 71 VDDOX, 72 TDO, 73 VDDOH, 74 VSSC, 75 XTAL2, 76 XTAL1, 77 SEL_FREQ, 78 DVDD, 79 CONFIG[6], 80 CONFIG[5], 81 CONFIG[4], 82 CONFIG[3], 83 VSS, 84 VSS, 85 DVDD, 86 CONFIG[2], 87 CONFIG[1], 88 CONFIG[0], 89 VDDOH, 90 DVDD, 91 LED_TX, 92 LED_RX, 93 VSS, 94 VSS, 95 LED_DUPLEX, 96 DVDD, 97 VDDOH, 98 LED_LINK1000, 99 LED_LINK100, 100 LED_LINK10, 101 VSS, 102 VSS, 103 VSS, 104 AVDD, 105 S_OUT-, 106 VSS, 107 S_OUT+, 108 VSS, 109 S_CLK-, 110 S_CLK+, 111 VSS, 112 S_IN-, 113 S_IN+, 114 COL, 115 CRS, 116 VSS, 117 DVDD, 118 DVDD, 119 VSS, 120 RXD7, 121 RXD6, 122 VDDO, 123 RXD5, 124 RXD4, 125 RXD3, 126 RXD2, 127 VSS, 128 RXD1
text: GMII/MII/TBI; MDI INTERFACE; MGMT; SGMII

## 249ЛП10
designator DA?, comment 249ЛП10Р
Сдвоенный  быстродействующий герметичный  оптрон для изделий cпециального назначения; rus_value: 249ЛП10Р
pins: 1 C1, 2 A1, 3 A2, 4 C2, 5 GND, 6 VO2, 7 VO1, 8 VCC
text: ISO

## 1114ЕУ3
designator DA?
rus_value: 1114ЕУ3
footprint 4112.16-15.01
pins: 1 VREF, 2 INc-, 3 INc+, 4 INv+, 5 INv-, 6 FB, 7 DTC, 8 CT, 9 RT, 10 C1, 11 E1, 12 E2, 13 C2, 14 VCC, 15 GND, 16 OTC

## 1158ЕН
designator DA?, comment 1158ЕН3.3ГХ
Cтабилизатор фиксированного напряжения; rus_value: 1158ЕН3.3ГХ
pins: 1 GND, 2 OUT, 3 IN
text: STU

## 1645РУ3У
designator DD?
rus_value: 1645РУ3У
pins: 1 GND, 2 D4, 3 D5, 4 D6, 5 D7, 6 ~{WE}, 7 A5, 8 A6, 9 A7, 10 A8, 11 A9, 23 A10, 24 A11, 25 A12, 26 A13, 27 A14, 28 D8, 29 D9, 30 D10, 31 D11, 32 VCC, 33 GND, 34 D12, 35 D13, 36 D14, 37 D15, 38 ~{BLE}, 39 ~{BHE}, 40 ~{OE}, 41 A15, 42 A16, 43 A17, 54 A0, 55 A1, 56 A2, 57 A3, 58 A4, 59 ~{CE}, 60 D0, 61 D1, 62 D2, 63 D3, 64 VCC
text: RAM

## 1645РУ6У
designator DD?
rus_value: 1645РУ6У
pins: 1 VCC, 2 D11, 3 D10, 4 GND, 5 D9, 6 D8, 7 VCC, 8 GND, 9 VCC, 10 A9, 11 A8, 12 A7, 13 A6, 14 A5, 15 ~{WE}, 16 GND, 17 VCC, 18 ~{CE}, 19 A4, 20 A3, 21 A2, 22 A1, 23 A0, 24 GND, 25 T1, 26 GND, 27 D0, 28 D1, 29 VCC, 30 D2, 31 D3, 32 GND, 33 D4, 34 D5, 35 VCC, 36 D6, 37 D7, 38 GND, 39 ~{OE}, 40 VCC, 41 VCC, 42 A10, 43 A11, 44 A12, 45 A13, 46 A14, 47 ~{BLE}, 48 GND, 49 VCC, 50 ~{BHE}, 51 A15, 52 A16, 53 A17, 54 A18, 55 A19, 56 GND, 57 T2, 58 T3, 59 VCC, 60 D15, 61 D14, 62 GND, 63 D13, 64 D12
text: RAM

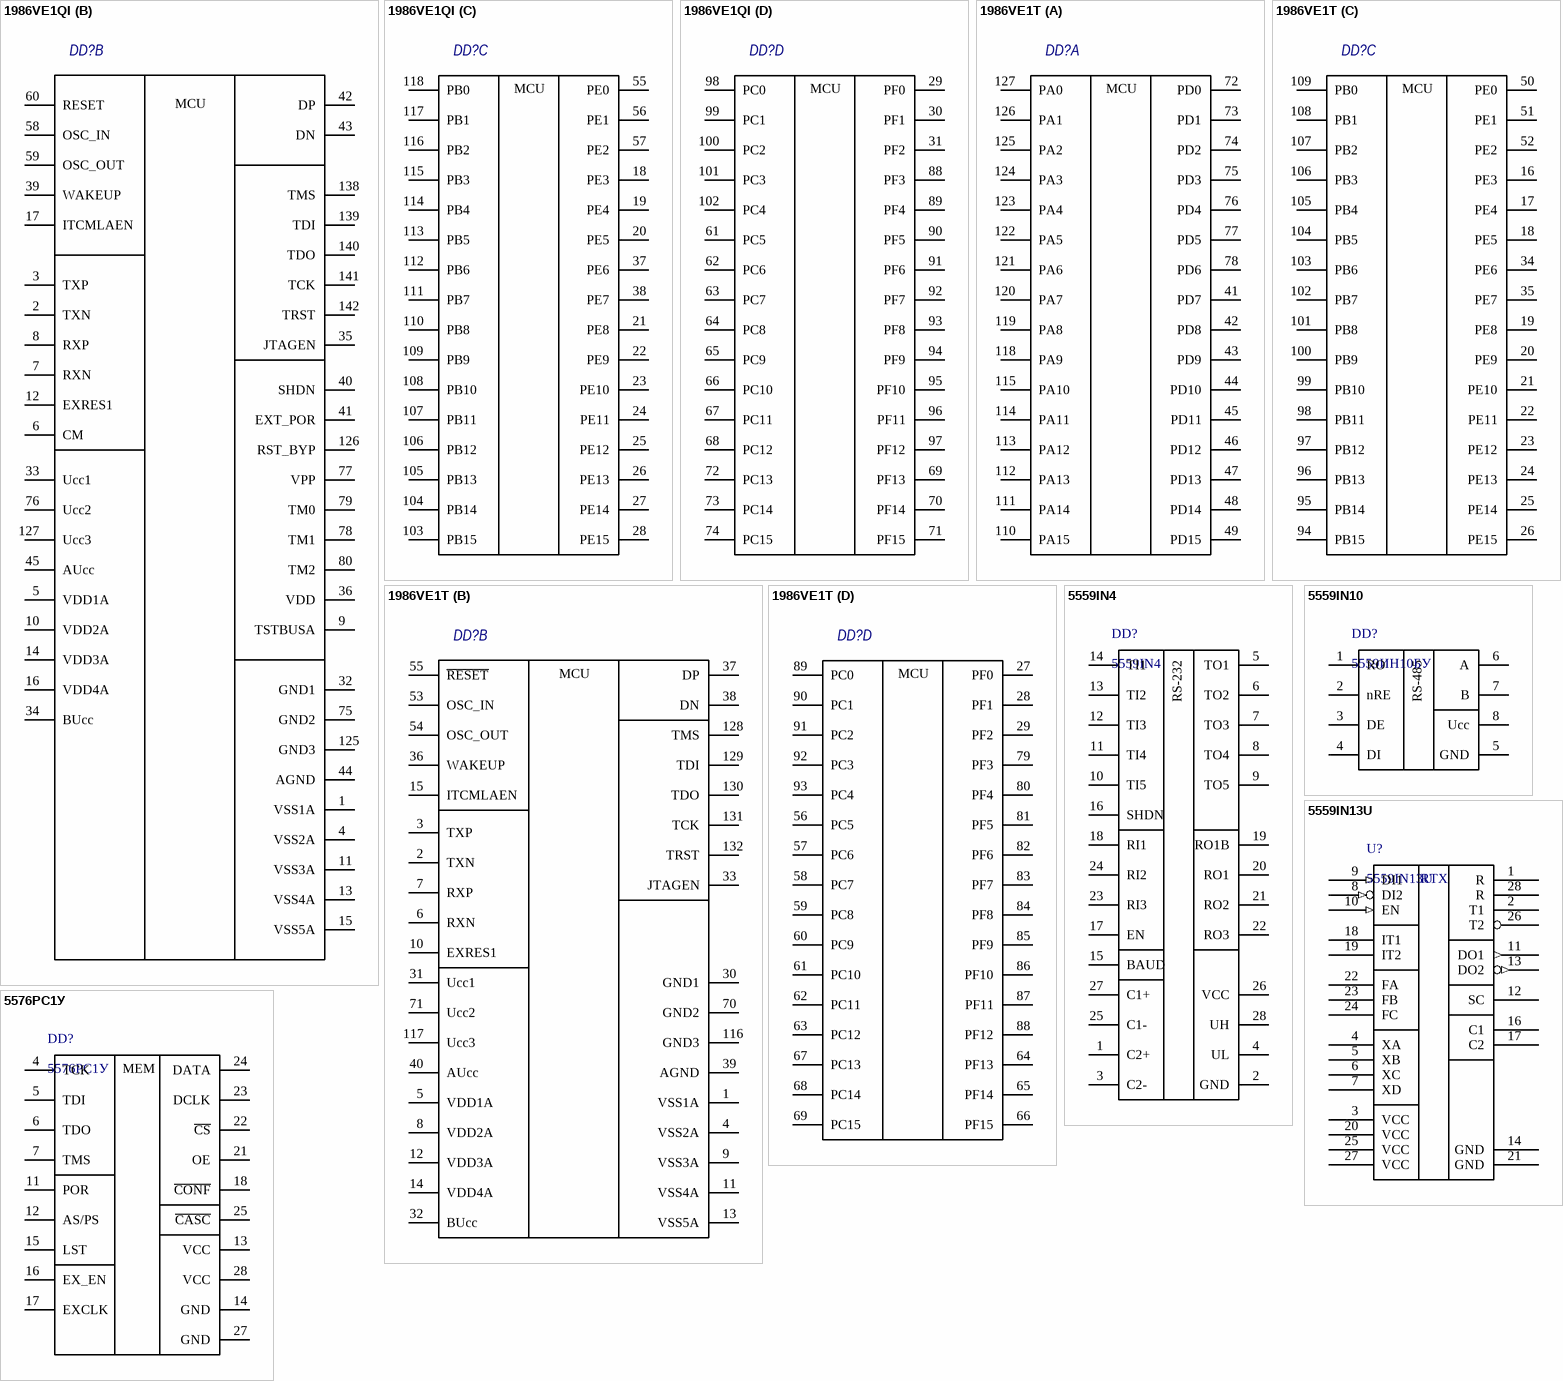
[diagram p4: symbols 1986VE1QI to 5576РС1У]

## 1986VE1QI
designator DD?  (value not drawn)
ValueManufacturer: "Миландр"; ValueDescription: 1986BE1QI; ValueType: Микросхема
footprint LQFP-144 (Footprint not found)
part A pins: 46 PD7, 47 PD8, 48 PD9, 49 PD10, 50 PD11, 51 PD12, 52 PD13, 53 PD14, 54 PD15, 81 PD0, 82 PD1, 83 PD2, 84 PD3, 85 PD4, 86 PD5, 87 PD6, 119 PA15, 120 PA14, 121 PA13, 122 PA12, 123 PA11, 124 PA10, 128 PA9, 129 PA8, 130 PA7, 131 PA6, 132 PA5, 133 PA4, 134 PA3, 135 PA2, 136 PA1, 137 PA0
part B pins: 1 VSS1A, 2 TXN, 3 TXP, 4 VSS2A, 5 VDD1A, 6 CM, 7 RXN, 8 RXP, 9 TSTBUSA, 10 VDD2A, 11 VSS3A, 12 EXRES1, 13 VSS4A, 14 VDD3A, 15 VSS5A, 16 VDD4A, 17 ITCMLAEN, 32 GND1, 33 Ucc1, 34 BUcc, 35 JTAGEN, 36 VDD, 39 WAKEUP, 40 SHDN, 41 EXT_POR, 42 DP, 43 DN, 44 AGND, 45 AUcc, 58 OSC_IN, 59 OSC_OUT, 60 RESET, 75 GND2, 76 Ucc2, 77 VPP, 78 TM1, 79 TM0, 80 TM2, 125 GND3, 126 RST_BYP, 127 Ucc3, 138 TMS, 139 TDI, 140 TDO, 141 TCK, 142 TRST
part C pins: 18 PE3, 19 PE4, 20 PE5, 21 PE8, 22 PE9, 23 PE10, 24 PE11, 25 PE12, 26 PE13, 27 PE14, 28 PE15, 37 PE6, 38 PE7, 55 PE0, 56 PE1, 57 PE2, 103 PB15, 104 PB14, 105 PB13, 106 PB12, 107 PB11, 108 PB10, 109 PB9, 110 PB8, 111 PB7, 112 PB6, 113 PB5, 114 PB4, 115 PB3, 116 PB2, 117 PB1, 118 PB0
part D pins: 29 PF0, 30 PF1, 31 PF2, 61 PC5, 62 PC6, 63 PC7, 64 PC8, 65 PC9, 66 PC10, 67 PC11, 68 PC12, 69 PF13, 70 PF14, 71 PF15, 72 PC13, 73 PC14, 74 PC15, 88 PF3, 89 PF4, 90 PF5, 91 PF6, 92 PF7, 93 PF8, 94 PF9, 95 PF10, 96 PF11, 97 PF12, 98 PC0, 99 PC1, 100 PC2, 101 PC3, 102 PC4
part A text: MCU
part B text: MCU
part C text: MCU
part D text: MCU

## 1986VE1T
designator DD?  (value not drawn)
ValueManufacturer: "Миландр"; ValueDescription: 1986BE1T; ValueType: Микросхема
footprint 4229.132-3 ((Формованные выводы!!!!))
part A pins: 41 PD7, 42 PD8, 43 PD9, 44 PD10, 45 PD11, 46 PD12, 47 PD13, 48 PD14, 49 PD15, 72 PD0, 73 PD1, 74 PD2, 75 PD3, 76 PD4, 77 PD5, 78 PD6, 110 PA15, 111 PA14, 112 PA13, 113 PA12, 114 PA11, 115 PA10, 118 PA9, 119 PA8, 120 PA7, 121 PA6, 122 PA5, 123 PA4, 124 PA3, 125 PA2, 126 PA1, 127 PA0
part B pins: 1 VSS1A, 2 TXN, 3 TXP, 4 VSS2A, 5 VDD1A, 6 RXN, 7 RXP, 8 VDD2A, 9 VSS3A, 10 EXRES1, 11 VSS4A, 12 VDD3A, 13 VSS5A, 14 VDD4A, 15 ITCMLAEN, 30 GND1, 31 Ucc1, 32 BUcc, 33 JTAGEN, 36 WAKEUP, 37 DP, 38 DN, 39 AGND, 40 AUcc, 53 OSC_IN, 54 OSC_OUT, 55 ~{RESET}, 70 GND2, 71 Ucc2, 116 GND3, 117 Ucc3, 128 TMS, 129 TDI, 130 TDO, 131 TCK, 132 TRST
part C pins: 16 PE3, 17 PE4, 18 PE5, 19 PE8, 20 PE9, 21 PE10, 22 PE11, 23 PE12, 24 PE13, 25 PE14, 26 PE15, 34 PE6, 35 PE7, 50 PE0, 51 PE1, 52 PE2, 94 PB15, 95 PB14, 96 PB13, 97 PB12, 98 PB11, 99 PB10, 100 PB9, 101 PB8, 102 PB7, 103 PB6, 104 PB5, 105 PB4, 106 PB3, 107 PB2, 108 PB1, 109 PB0
part D pins: 27 PF0, 28 PF1, 29 PF2, 56 PC5, 57 PC6, 58 PC7, 59 PC8, 60 PC9, 61 PC10, 62 PC11, 63 PC12, 64 PF13, 65 PF14, 66 PF15, 67 PC13, 68 PC14, 69 PC15, 79 PF3, 80 PF4, 81 PF5, 82 PF6, 83 PF7, 84 PF8, 85 PF9, 86 PF10, 87 PF11, 88 PF12, 89 PC0, 90 PC1, 91 PC2, 92 PC3, 93 PC4
part A text: MCU
part B text: MCU
part C text: MCU
part D text: MCU

## 5559IN4
designator DD?
value: 5559IN4
footprint Н09.28 - 1B
pins: 1 C2+, 2 GND, 3 C2-, 4 UL, 5 TO1, 6 TO2, 7 TO3, 8 TO4, 9 TO5, 10 TI5, 11 TI4, 12 TI3, 13 TI2, 14 TI1, 15 BAUD, 16 SHDN, 17 EN, 18 RI1, 19 RO1B, 20 RO1, 21 RO2, 22 RO3, 23 RI3, 24 RI2, 25 C1-, 26 VCC, 27 C1+, 28 UH
text: RS-232

## 5559IN10
designator DD?, comment 5559ИН10БУ
value: 5559ИН10БУ
footprint SOIC8
pins: 1 RO, 2 nRE, 3 DE, 4 DI, 5 GND, 6 A, 7 B, 8 Ucc
text: RS-485

## 5559IN13U
designator U?
value: 5559IN13U
footprint Н09.28 - 1B
pins: 1 R, 2 T1, 3 VCC, 4 XA, 5 XB, 6 XC, 7 XD, 8 DI2 (in), 9 DI1 (in), 10 EN (in), 11 DO1 (out), 12 SC, 13 DO2 (out), 14 GND, 16 C1, 17 C2, 18 IT1, 19 IT2, 20 VCC, 21 GND, 22 FA, 23 FB, 24 FC, 25 VCC, 26 T2, 27 VCC, 28 R
text: RTX

## 5576РС1У
designator DD?
FPGA config memory; value: 5576РС1У
footprint Н09.28-1В (Footprint not found)
pins: 4 TCK, 5 TDI, 6 TDO, 7 TMS, 11 POR, 12 AS/PS, 13 VCC, 14 GND, 15 LST, 16 EX_EN, 17 EXCLK, 18 ~{CONF}, 21 OE, 22 ~{CS}, 23 DCLK, 24 DATA, 25 ~{CASC}, 27 GND, 28 VCC
text: MEM

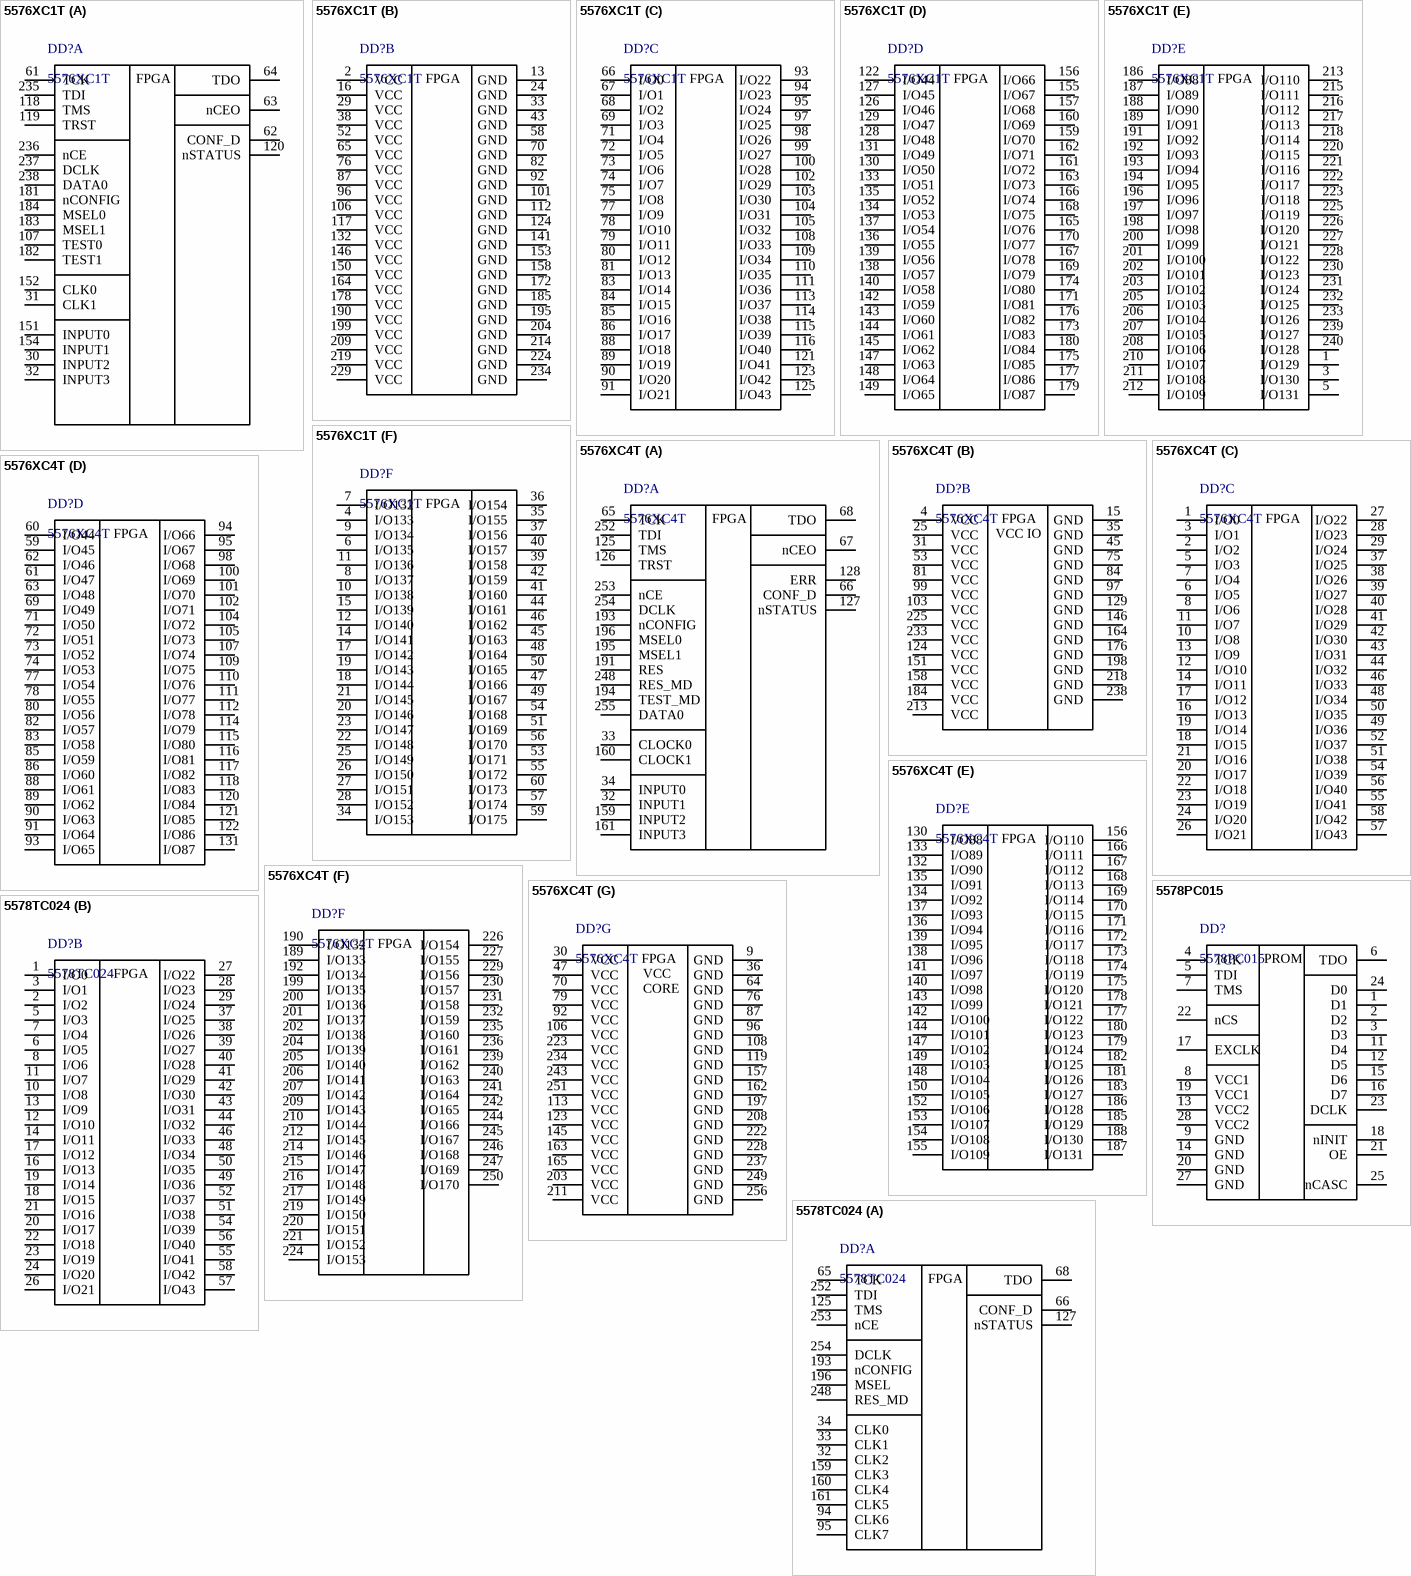
[diagram p5: symbols 5576ХС1Т to 5578ТС024]

## 5576ХС1Т
designator DD?
ПЛИС; rus_value: 5576ХС1Т
part A pins: 30 INPUT2, 31 CLK1, 32 INPUT3, 61 TCK, 62 CONF_D, 63 nCEO, 64 TDO, 107 TEST0, 118 TMS, 119 TRST, 120 nSTATUS, 151 INPUT0, 152 CLK0, 154 INPUT1, 181 nCONFIG, 182 TEST1, 183 MSEL1, 184 MSEL0, 235 TDI, 236 nCE, 237 DCLK, 238 DATA0
part B pins: 2 VCC, 13 GND, 16 VCC, 24 GND, 29 VCC, 33 GND, 38 VCC, 43 GND, 52 VCC, 58 GND, 65 VCC, 70 GND, 76 VCC, 82 GND, 87 VCC, 92 GND, 96 VCC, 101 GND, 106 VCC, 112 GND, 117 VCC, 124 GND, 132 VCC, 141 GND, 146 VCC, 150 VCC, 153 GND, 158 GND, 164 VCC, 172 GND, 178 VCC, 185 GND, 190 VCC, 195 GND, 199 VCC, 204 GND, 209 VCC, 214 GND, 219 VCC, 224 GND, 229 VCC, 234 GND
part C pins: 66 I/O0, 67 I/O1, 68 I/O2, 69 I/O3, 71 I/O4, 72 I/O5, 73 I/O6, 74 I/O7, 75 I/O8, 77 I/O9, 78 I/O10, 79 I/O11, 80 I/O12, 81 I/O13, 83 I/O14, 84 I/O15, 85 I/O16, 86 I/O17, 88 I/O18, 89 I/O19, 90 I/O20, 91 I/O21, 93 I/O22, 94 I/O23, 95 I/O24, 97 I/O25, 98 I/O26, 99 I/O27, 100 I/O28, 102 I/O29, 103 I/O30, 104 I/O31, 105 I/O32, 108 I/O33, 109 I/O34, 110 I/O35, 111 I/O36, 113 I/O37, 114 I/O38, 115 I/O39, 116 I/O40, 121 I/O41, 123 I/O42, 125 I/O43
part D pins: 122 I/O44, 126 I/O46, 127 I/O45, 128 I/O48, 129 I/O47, 130 I/O50, 131 I/O49, 133 I/O51, 134 I/O53, 135 I/O52, 136 I/O55, 137 I/O54, 138 I/O57, 139 I/O56, 140 I/O58, 142 I/O59, 143 I/O60, 144 I/O61, 145 I/O62, 147 I/O63, 148 I/O64, 149 I/O65, 155 I/O67, 156 I/O66, 157 I/O68, 159 I/O70, 160 I/O69, 161 I/O72, 162 I/O71, 163 I/O73, 165 I/O76, 166 I/O74, 167 I/O78, 168 I/O75, 169 I/O79, 170 I/O77, 171 I/O81, 173 I/O83, 174 I/O80, 175 I/O85, 176 I/O82, 177 I/O86, 179 I/O87, 180 I/O84
part E pins: 1 I/O129, 3 I/O130, 5 I/O131, 186 I/O88, 187 I/O89, 188 I/O90, 189 I/O91, 191 I/O92, 192 I/O93, 193 I/O94, 194 I/O95, 196 I/O96, 197 I/O97, 198 I/O98, 200 I/O99, 201 I/O100, 202 I/O101, 203 I/O102, 205 I/O103, 206 I/O104, 207 I/O105, 208 I/O106, 210 I/O107, 211 I/O108, 212 I/O109, 213 I/O110, 215 I/O111, 216 I/O112, 217 I/O113, 218 I/O114, 220 I/O115, 221 I/O116, 222 I/O117, 223 I/O118, 225 I/O119, 226 I/O120, 227 I/O121, 228 I/O122, 230 I/O123, 231 I/O124, 232 I/O125, 233 I/O126, 239 I/O127, 240 I/O128
part F pins: 4 I/O133, 6 I/O135, 7 I/O132, 8 I/O137, 9 I/O134, 10 I/O138, 11 I/O136, 12 I/O140, 14 I/O141, 15 I/O139, 17 I/O142, 18 I/O144, 19 I/O143, 20 I/O146, 21 I/O145, 22 I/O148, 23 I/O147, 25 I/O149, 26 I/O150, 27 I/O151, 28 I/O152, 34 I/O153, 35 I/O155, 36 I/O154, 37 I/O156, 39 I/O158, 40 I/O157, 41 I/O160, 42 I/O159, 44 I/O161, 45 I/O163, 46 I/O162, 47 I/O166, 48 I/O164, 49 I/O167, 50 I/O165, 51 I/O169, 53 I/O171, 54 I/O168, 55 I/O172, 56 I/O170, 57 I/O174, 59 I/O175, 60 I/O173
part A text: FPGA
part B text: FPGA
part C text: FPGA
part D text: FPGA
part E text: FPGA
part F text: FPGA

## 5576ХС4Т
designator DD?
ПЛИС; rus_value: 5576ХС4Т
part A pins: 32 INPUT1, 33 CLOCK0, 34 INPUT0, 65 TCK, 66 CONF_D, 67 nCEO, 68 TDO, 125 TMS, 126 TRST, 127 nSTATUS, 128 ERR, 159 INPUT2, 160 CLOCK1, 161 INPUT3, 191 RES, 193 nCONFIG, 194 TEST_MD, 195 MSEL1, 196 MSEL0, 248 RES_MD, 252 TDI, 253 nCE, 254 DCLK, 255 DATA0
part B pins: 4 VCC, 15 GND, 25 VCC, 31 VCC, 35 GND, 45 GND, 53 VCC, 75 GND, 81 VCC, 84 GND, 97 GND, 99 VCC, 103 VCC, 124 VCC, 129 GND, 146 GND, 151 VCC, 158 VCC, 164 GND, 176 GND, 184 VCC, 198 GND, 213 VCC, 218 GND, 225 VCC, 233 VCC, 238 GND
part C pins: 1 I/O0, 2 I/O2, 3 I/O1, 5 I/O3, 6 I/O5, 7 I/O4, 8 I/O6, 10 I/O8, 11 I/O7, 12 I/O10, 13 I/O9, 14 I/O11, 16 I/O13, 17 I/O12, 18 I/O15, 19 I/O14, 20 I/O17, 21 I/O16, 22 I/O18, 23 I/O19, 24 I/O20, 26 I/O21, 27 I/O22, 28 I/O23, 29 I/O24, 37 I/O25, 38 I/O26, 39 I/O27, 40 I/O28, 41 I/O29, 42 I/O30, 43 I/O31, 44 I/O32, 46 I/O33, 48 I/O34, 49 I/O36, 50 I/O35, 51 I/O38, 52 I/O37, 54 I/O39, 55 I/O41, 56 I/O40, 57 I/O43, 58 I/O42
part D pins: 59 I/O45, 60 I/O44, 61 I/O47, 62 I/O46, 63 I/O48, 69 I/O49, 71 I/O50, 72 I/O51, 73 I/O52, 74 I/O53, 77 I/O54, 78 I/O55, 80 I/O56, 82 I/O57, 83 I/O58, 85 I/O59, 86 I/O60, 88 I/O61, 89 I/O62, 90 I/O63, 91 I/O64, 93 I/O65, 94 I/O66, 95 I/O67, 98 I/O68, 100 I/O69, 101 I/O70, 102 I/O71, 104 I/O72, 105 I/O73, 107 I/O74, 109 I/O75, 110 I/O76, 111 I/O77, 112 I/O78, 114 I/O79, 115 I/O80, 116 I/O81, 117 I/O82, 118 I/O83, 120 I/O84, 121 I/O85, 122 I/O86, 131 I/O87
part E pins: 130 I/O88, 132 I/O90, 133 I/O89, 134 I/O92, 135 I/O91, 136 I/O94, 137 I/O93, 138 I/O96, 139 I/O95, 140 I/O98, 141 I/O97, 142 I/O100, 143 I/O99, 144 I/O101, 147 I/O102, 148 I/O104, 149 I/O103, 150 I/O105, 152 I/O106, 153 I/O107, 154 I/O108, 155 I/O109, 156 I/O110, 166 I/O111, 167 I/O112, 168 I/O113, 169 I/O114, 170 I/O115, 171 I/O116, 172 I/O117, 173 I/O118, 174 I/O119, 175 I/O120, 177 I/O122, 178 I/O121, 179 I/O124, 180 I/O123, 181 I/O126, 182 I/O125, 183 I/O127, 185 I/O129, 186 I/O128, 187 I/O131, 188 I/O130
part F pins: 189 I/O133, 190 I/O132, 192 I/O134, 199 I/O135, 200 I/O136, 201 I/O137, 202 I/O138, 204 I/O139, 205 I/O140, 206 I/O141, 207 I/O142, 209 I/O143, 210 I/O144, 212 I/O145, 214 I/O146, 215 I/O147, 216 I/O148, 217 I/O149, 219 I/O150, 220 I/O151, 221 I/O152, 224 I/O153, 226 I/O154, 227 I/O155, 229 I/O156, 230 I/O157, 231 I/O158, 232 I/O159, 235 I/O160, 236 I/O161, 239 I/O162, 240 I/O163, 241 I/O164, 242 I/O165, 244 I/O166, 245 I/O167, 246 I/O168, 247 I/O169, 250 I/O170
part G pins: 9 GND, 30 VCC, 36 GND, 47 VCC, 64 GND, 70 VCC, 76 GND, 79 VCC, 87 GND, 92 VCC, 96 GND, 106 VCC, 108 GND, 113 VCC, 119 GND, 123 VCC, 145 VCC, 157 GND, 162 GND, 163 VCC, 165 VCC, 197 GND, 203 VCC, 208 GND, 211 VCC, 222 GND, 223 VCC, 228 GND, 234 VCC, 237 GND, 243 VCC, 249 GND, 251 VCC, 256 GND
part A text: FPGA
part B text: FPGA; VCC IO
part C text: FPGA
part D text: FPGA
part E text: FPGA
part F text: FPGA
part G text: FPGA; CORE

## 5578РС015
designator DD?
rus_value: 5578РС015
footprint Н09.28-1В (Footprint not found)
pins: 1 D1, 2 D2, 3 D3, 4 TCK, 5 TDI, 6 TDO, 7 TMS, 8 VCC1, 9 GND, 11 D4, 12 D5, 13 VCC2, 14 GND, 15 D6, 16 D7, 17 EXCLK, 18 nINIT, 19 VCC1, 20 GND, 21 OE, 22 nCS, 23 DCLK, 24 D0, 25 nCASC, 27 GND, 28 VCC2
text: PROM

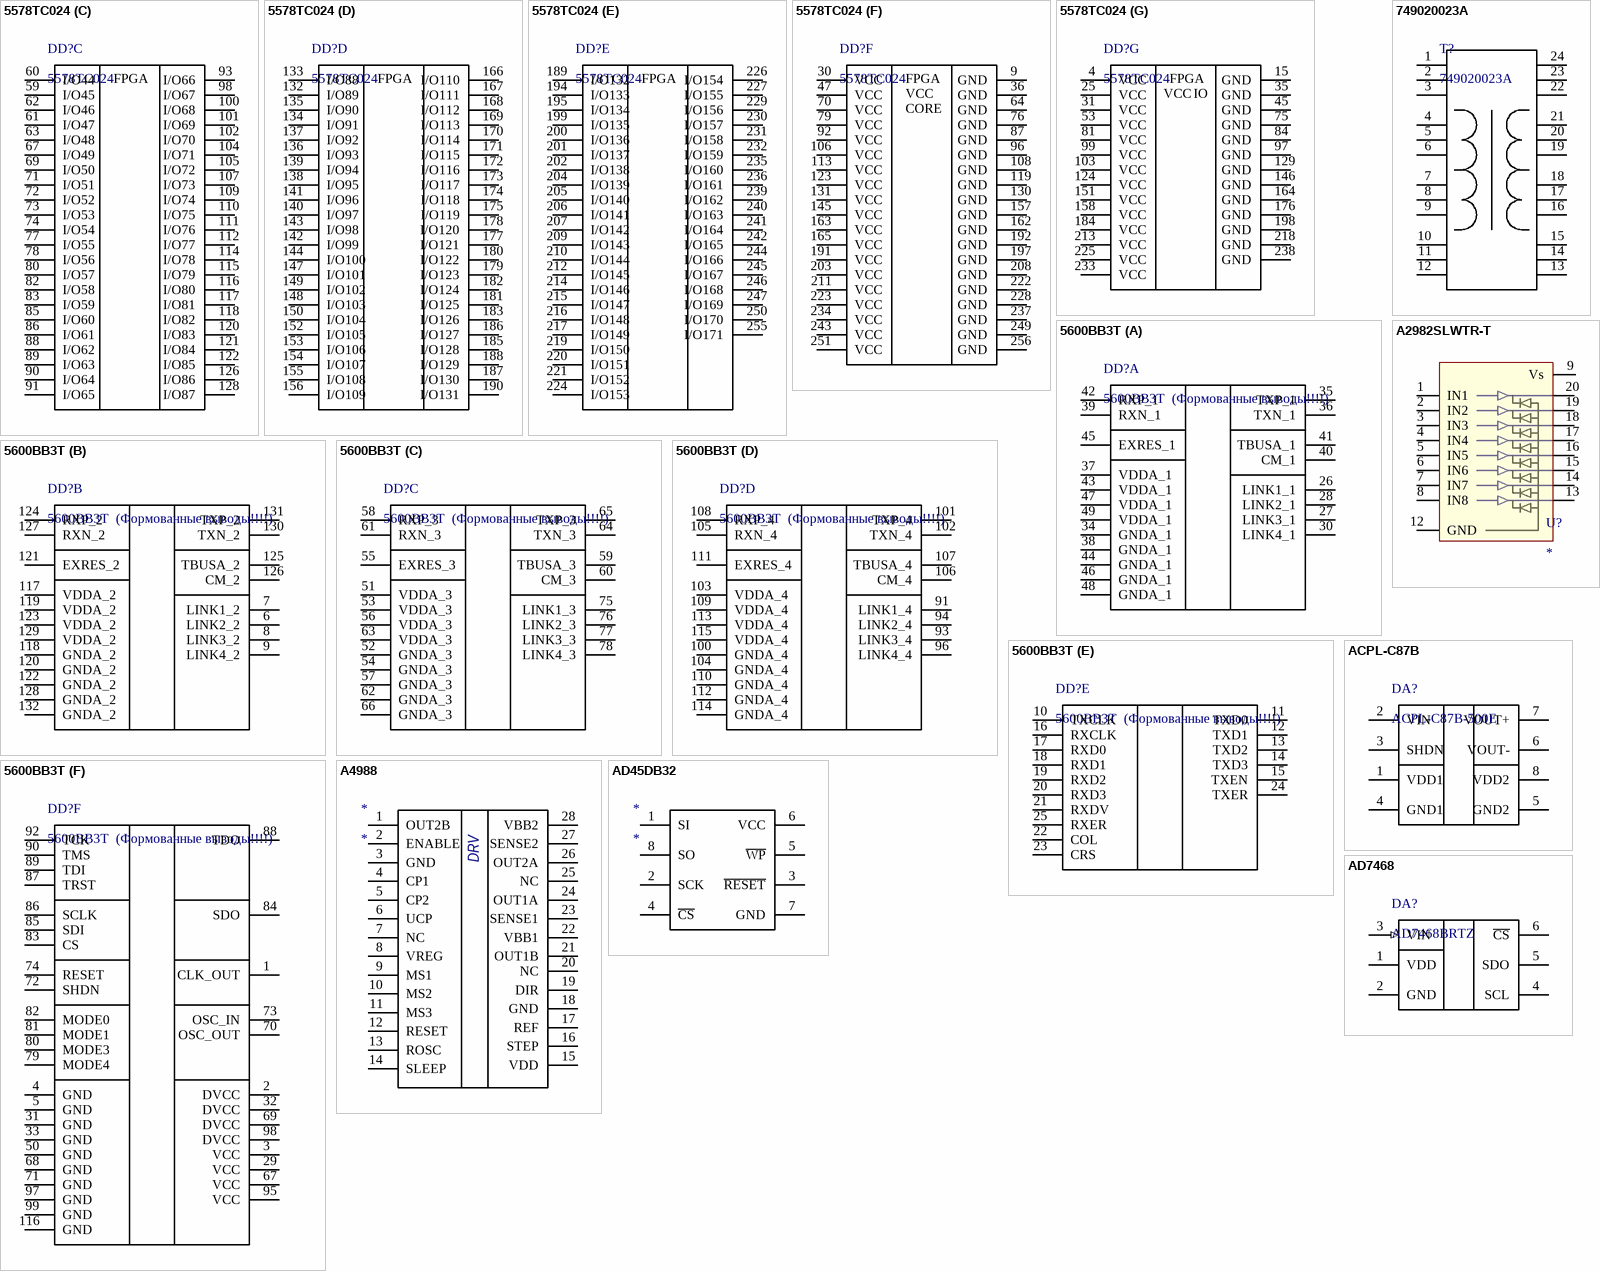
[diagram p6: symbols 5578ТС024 to AD7468]

## 5578ТС024
designator DD?
ПЛИС; rus_value: 5578ТС024
part A pins: 32 CLK2, 33 CLK1, 34 CLK0, 65 TCK, 66 CONF_D, 68 TDO, 94 CLK6, 95 CLK7, 125 TMS, 127 nSTATUS, 159 CLK3, 160 CLK4, 161 CLK5, 193 nCONFIG, 196 MSEL, 248 RES_MD, 252 TDI, 253 nCE, 254 DCLK
part B pins: 1 I/O0, 2 I/O2, 3 I/O1, 5 I/O3, 6 I/O5, 7 I/O4, 8 I/O6, 10 I/O8, 11 I/O7, 12 I/O10, 13 I/O9, 14 I/O11, 16 I/O13, 17 I/O12, 18 I/O15, 19 I/O14, 20 I/O17, 21 I/O16, 22 I/O18, 23 I/O19, 24 I/O20, 26 I/O21, 27 I/O22, 28 I/O23, 29 I/O24, 37 I/O25, 38 I/O26, 39 I/O27, 40 I/O28, 41 I/O29, 42 I/O30, 43 I/O31, 44 I/O32, 46 I/O33, 48 I/O34, 49 I/O36, 50 I/O35, 51 I/O38, 52 I/O37, 54 I/O39, 55 I/O41, 56 I/O40, 57 I/O43, 58 I/O42
part C pins: 59 I/O45, 60 I/O44, 61 I/O47, 62 I/O46, 63 I/O48, 67 I/O49, 69 I/O50, 71 I/O51, 72 I/O52, 73 I/O53, 74 I/O54, 77 I/O55, 78 I/O56, 80 I/O57, 82 I/O58, 83 I/O59, 85 I/O60, 86 I/O61, 88 I/O62, 89 I/O63, 90 I/O64, 91 I/O65, 93 I/O66, 98 I/O67, 100 I/O68, 101 I/O69, 102 I/O70, 104 I/O71, 105 I/O72, 107 I/O73, 109 I/O74, 110 I/O75, 111 I/O76, 112 I/O77, 114 I/O78, 115 I/O79, 116 I/O80, 117 I/O81, 118 I/O82, 120 I/O83, 121 I/O84, 122 I/O85, 126 I/O86, 128 I/O87
part D pins: 132 I/O89, 133 I/O88, 134 I/O91, 135 I/O90, 136 I/O93, 137 I/O92, 138 I/O95, 139 I/O94, 140 I/O97, 141 I/O96, 142 I/O99, 143 I/O98, 144 I/O100, 147 I/O101, 148 I/O103, 149 I/O102, 150 I/O104, 152 I/O105, 153 I/O106, 154 I/O107, 155 I/O108, 156 I/O109, 166 I/O110, 167 I/O111, 168 I/O112, 169 I/O113, 170 I/O114, 171 I/O115, 172 I/O116, 173 I/O117, 174 I/O118, 175 I/O119, 177 I/O121, 178 I/O120, 179 I/O123, 180 I/O122, 181 I/O125, 182 I/O124, 183 I/O126, 185 I/O128, 186 I/O127, 187 I/O130, 188 I/O129, 190 I/O131
part E pins: 189 I/O132, 194 I/O133, 195 I/O134, 199 I/O135, 200 I/O136, 201 I/O137, 202 I/O138, 204 I/O139, 205 I/O140, 206 I/O141, 207 I/O142, 209 I/O143, 210 I/O144, 212 I/O145, 214 I/O146, 215 I/O147, 216 I/O148, 217 I/O149, 219 I/O150, 220 I/O151, 221 I/O152, 224 I/O153, 226 I/O154, 227 I/O155, 229 I/O156, 230 I/O157, 231 I/O158, 232 I/O159, 235 I/O160, 236 I/O161, 239 I/O162, 240 I/O163, 241 I/O164, 242 I/O165, 244 I/O166, 245 I/O167, 246 I/O168, 247 I/O169, 250 I/O170, 255 I/O171
part F pins: 9 GND, 30 VCC, 36 GND, 47 VCC, 64 GND, 70 VCC, 76 GND, 79 VCC, 87 GND, 92 VCC, 96 GND, 106 VCC, 108 GND, 113 VCC, 119 GND, 123 VCC, 130 GND, 131 VCC, 145 VCC, 157 GND, 162 GND, 163 VCC, 165 VCC, 191 VCC, 192 GND, 197 GND, 203 VCC, 208 GND, 211 VCC, 222 GND, 223 VCC, 228 GND, 234 VCC, 237 GND, 243 VCC, 249 GND, 251 VCC, 256 GND
part G pins: 4 VCC, 15 GND, 25 VCC, 31 VCC, 35 GND, 45 GND, 53 VCC, 75 GND, 81 VCC, 84 GND, 97 GND, 99 VCC, 103 VCC, 124 VCC, 129 GND, 146 GND, 151 VCC, 158 VCC, 164 GND, 176 GND, 184 VCC, 198 GND, 213 VCC, 218 GND, 225 VCC, 233 VCC, 238 GND
part A text: FPGA
part B text: FPGA
part C text: FPGA
part D text: FPGA
part E text: FPGA
part F text: FPGA; CORE
part G text: FPGA; IO

## 5600ВВ3Т
designator DD?, comment 5600ВВ3Т  (Формованные выводы!!!!)
rus_value: 5600ВВ3Т  (Формованные выводы!!!!); value: 5600ВВ3Т
footprint 4229.132-3
part A pins: 26 LINK1_1, 27 LINK3_1, 28 LINK2_1, 30 LINK4_1, 34 GNDA_1, 35 TXP_1, 36 TXN_1, 37 VDDA_1, 38 GNDA_1, 39 RXN_1, 40 CM_1, 41 TBUSA_1, 42 RXP_1, 43 VDDA_1, 44 GNDA_1, 45 EXRES_1, 46 GNDA_1, 47 VDDA_1, 48 GNDA_1, 49 VDDA_1
part B pins: 6 LINK2_2, 7 LINK1_2, 8 LINK3_2, 9 LINK4_2, 117 VDDA_2, 118 GNDA_2, 119 VDDA_2, 120 GNDA_2, 121 EXRES_2, 122 GNDA_2, 123 VDDA_2, 124 RXP_2, 125 TBUSA_2, 126 CM_2, 127 RXN_2, 128 GNDA_2, 129 VDDA_2, 130 TXN_2, 131 TXP_2, 132 GNDA_2
part C pins: 51 VDDA_3, 52 GNDA_3, 53 VDDA_3, 54 GNDA_3, 55 EXRES_3, 56 VDDA_3, 57 GNDA_3, 58 RXP_3, 59 TBUSA_3, 60 CM_3, 61 RXN_3, 62 GNDA_3, 63 VDDA_3, 64 TXN_3, 65 TXP_3, 66 GNDA_3, 75 LINK1_3, 76 LINK2_3, 77 LINK3_3, 78 LINK4_3
part D pins: 91 LINK1_4, 93 LINK3_4, 94 LINK2_4, 96 LINK4_4, 100 GNDA_4, 101 TXP_4, 102 TXN_4, 103 VDDA_4, 104 GNDA_4, 105 RXN_4, 106 CM_4, 107 TBUSA_4, 108 RXP_4, 109 VDDA_4, 110 GNDA_4, 111 EXRES_4, 112 GNDA_4, 113 VDDA_4, 114 GNDA_4, 115 VDDA_4
part E pins: 10 TXCLK, 11 TXD0, 12 TXD1, 13 TXD2, 14 TXD3, 15 TXEN, 16 RXCLK, 17 RXD0, 18 RXD1, 19 RXD2, 20 RXD3, 21 RXDV, 22 COL, 23 CRS, 24 TXER, 25 RXER
part F pins: 1 CLK_OUT, 2 DVCC, 3 VCC, 4 GND, 5 GND, 29 VCC, 31 GND, 32 DVCC, 33 GND, 50 GND, 67 VCC, 68 GND, 69 DVCC, 70 OSC_OUT, 71 GND, 72 SHDN, 73 OSC_IN, 74 RESET, 79 MODE4, 80 MODE3, 81 MODE1, 82 MODE0, 83 CS, 84 SDO, 85 SDI, 86 SCLK, 87 TRST, 88 TDO, 89 TDI, 90 TMS, 92 TCK, 95 VCC, 97 GND, 98 DVCC, 99 GND, 116 GND

## 749020023A
designator T?
value: 749020023A
pins: 1, 2, 3, 4, 5, 6, 7, 8, 9, 10, 11, 12, 13, 14, 15, 16, 17, 18, 19, 20, 21, 22, 23, 24

## A2982SLWTR-T
designator U?
value: A2982SLWTR-T
footprint SO-20-W
pins: 1 IN1, 2 IN2, 3 IN3, 4 IN4, 5 IN5, 6 IN6, 7 IN7, 8 IN8, 9 Vs, 12 GND, 13, 14, 15, 16, 17, 18, 19, 20

## A4988
designator *
pins: 1 OUT2B, 2 ENABLE, 3 GND, 4 CP1, 5 CP2, 6 UCP, 7 NC, 8 VREG, 9 MS1, 10 MS2, 11 MS3, 12 RESET, 13 ROSC, 14 SLEEP, 15 VDD, 16 STEP, 17 REF, 18 GND, 19 DIR, 20 NC, 21 OUT1B, 22 VBB1, 23 SENSE1, 24 OUT1A, 25 NC, 26 OUT2A, 27 SENSE2, 28 VBB2
text: DRV

## ACPL-C87B
designator DA?, comment ACPL-C87B-500E
value: ACPL-C87B-500E
footprint SO8 (SOIC, 8-Leads, Body 4.9x3.9mm, Pitch 1.27mm, IPC Medium Density)
pins: 1 VDD1, 2 VIN, 3 SHDN, 4 GND1, 5 GND2, 6 VOUT-, 7 VOUT+, 8 VDD2

## AD45DB32
designator *
pins: 1 SI, 2 SCK, 3 ~{RESET}, 4 ~{CS}, 5 ~{WP}, 6 VCC, 7 GND, 8 SO

## AD7468
designator DA?, comment AD7468BRTZ
Micropower  8-Bit ADCs; value: AD7468BRTZ
footprint SOT-23-6 (SOT-23 5pin)
pins: 1 VDD (power), 2 GND (power), 3 VIN (in), 4 SCL (power), 5 SDO (power), 6 ~{CS} (power)

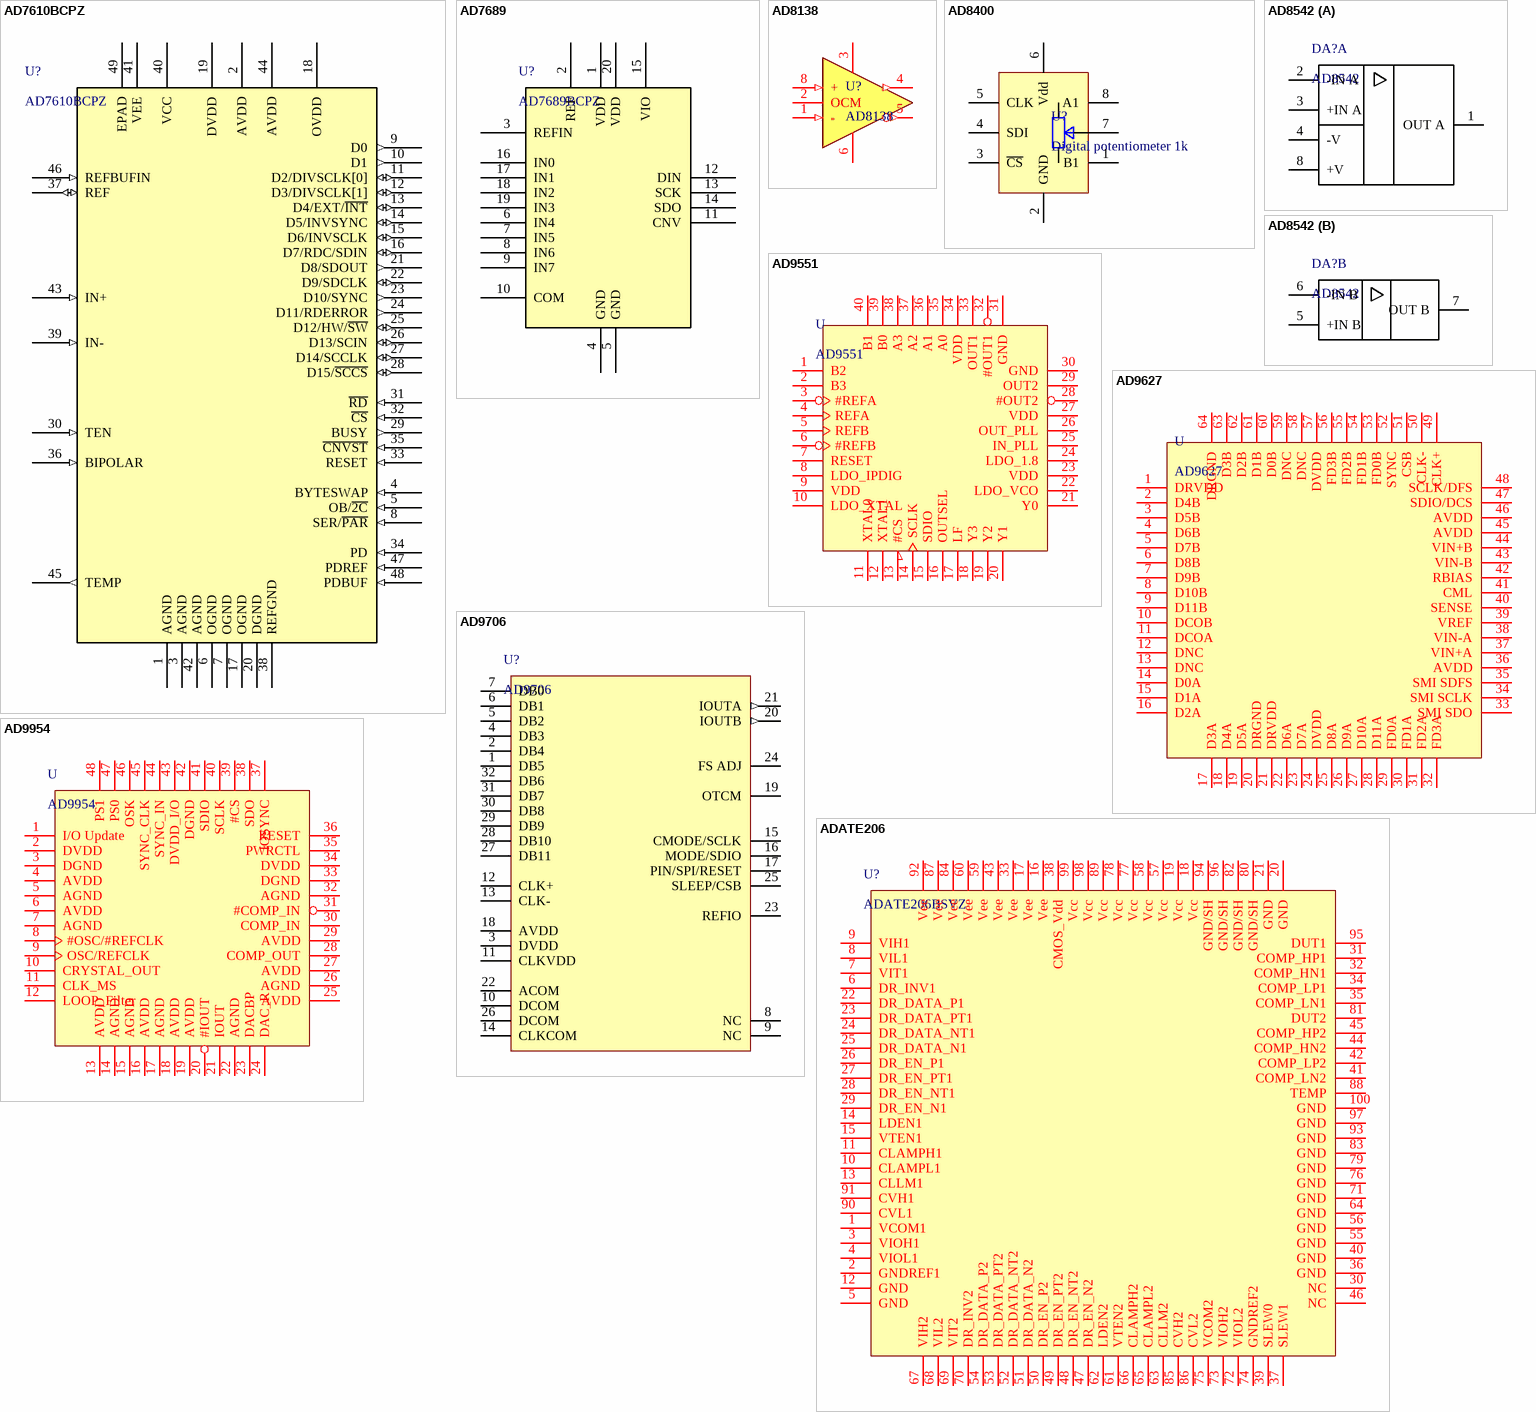
[diagram p7: symbols AD7610BCPZ to ADATE206]

## AD7610BCPZ
designator U?
value: AD7610BCPZ
footprint QFN48
pins: 1 AGND (power), 2 AVDD (power), 3 AGND (power), 4 BYTESWAP (in), 5 OB/~{2C} (in), 6 OGND (power), 7 OGND (power), 8 SER/~{PAR} (in), 9 D0 (out), 10 D1 (out), 11 D2/DIVSCLK[0] (io), 12 D3/DIVSCLK[1] (io), 13 D4/EXT/~{INT} (io), 14 D5/INVSYNC (io), 15 D6/INVSCLK (io), 16 D7/RDC/SDIN (io), 17 OGND (power), 18 OVDD (power), 19 DVDD (power), 20 DGND (power), 21 D8/SDOUT (out), 22 D9/SDCLK (io), 23 D10/SYNC (out), 24 D11/RDERROR (out), 25 D12/HW/~{SW} (io), 26 D13/SCIN (io), 27 D14/SCCLK (io), 28 D15/~{SCCS} (io), 29 BUSY (out), 30 TEN (in), 31 ~{RD} (in), 32 ~{CS} (in), 33 RESET (in), 34 PD (in), 35 ~{CNVST} (in), 36 BIPOLAR (in), 37 REF (io), 38 REFGND (power), 39 IN- (in), 40 VCC (power), 41 VEE (power), 42 AGND (power), 43 IN+ (in), 44 AVDD (power), 45 TEMP (out), 46 REFBUFIN (in), 47 PDREF (in), 48 PDBUF (in), 49 EPAD (power)

## AD7689
designator U?, comment AD7689BCPZ
16-Bit, 8-Channel,250 kSPS PulSAR ADC; value: AD7689BCPZ
pins: 1 VDD, 2 REF, 3 REFIN, 4 GND, 5 GND, 6 IN4, 7 IN5, 8 IN6, 9 IN7, 10 COM, 11 CNV, 12 DIN, 13 SCK, 14 SDO, 15 VIO, 16 IN0, 17 IN1, 18 IN2, 19 IN3, 20 VDD

## AD8138
designator U?
Low Distortion Differential ADC Driver
footprint PSOP8 (SOP, 8-Leads, Body 6x4.7mm, Pitch 1.27mm, IPC Medium Density)
simulation model SIMetrix_AD8138 (AD8138 SPICE Macro-model)
pins: 1 - (in), 2 OCM, 3 Vcc (power), 4 Out+ (out), 5 Out- (out), 6 Vss (power), 8 + (in)

## AD8400
designator U?, comment Digital potentiometer 1k
footprint PSOP8 (SOP, 8-Leads, Body 6x4.7mm, Pitch 1.27mm, IPC Medium Density)
pins: 1 B1, 2 GND, 3 ~{CS}, 4 SDI, 5 CLK, 6 Vdd, 7 W1, 8 A1

## AD8542
designator DA?
4-х  разрядная защелка; value: AD8542; rus_value: *
footprint TSSOP-8
part A pins: 1 OUT A, 2 -IN A, 3 +IN A, 4 -V, 8 +V
part B pins: 5 +IN B, 6 -IN B, 7 OUT B

## AD9551
designator U
footprint QFN40_PAD (QFN with Exposed Pad)
pins: 0 GND hidden to GND, 1 B2, 2 B3, 3 #REFA, 4 REFA, 5 REFB, 6 #REFB, 7 RESET, 8 LDO_IPDIG, 9 VDD, 10 LDO_XTAL, 11 XTAL0, 12 XTAL1, 13 #CS, 14 SCLK, 15 SDIO, 16 OUTSEL, 17 LF, 18 Y3, 19 Y2, 20 Y1, 21 Y0, 22 LDO_VCO, 23 VDD, 24 LDO_1.8, 25 IN_PLL, 26 OUT_PLL, 27 VDD, 28 #OUT2, 29 OUT2, 30 GND, 31 GND, 32 #OUT1, 33 OUT1, 34 VDD, 35 A0, 36 A1, 37 A2, 38 A3, 39 B0, 40 B1

## AD9627
designator U
footprint QFN64 (QFN64 Analog Devices)
pins: 1 DRVDD, 2 D4B, 3 D5B, 4 D6B, 5 D7B, 6 D8B, 7 D9B, 8 D10B, 9 D11B, 10 DCOB, 11 DCOA, 12 DNC, 13 DNC, 14 D0A, 15 D1A, 16 D2A, 17 D3A, 18 D4A, 19 D5A, 20 DRGND, 21 DRVDD, 22 D6A, 23 D7A, 24 DVDD, 25 D8A, 26 D9A, 27 D10A, 28 D11A, 29 FD0A, 30 FD1A, 31 FD2A, 32 FD3A, 33 SMI SDO, 34 SMI SCLK, 35 SMI SDFS, 36 AVDD, 37 VIN+A, 38 VIN-A, 39 VREF, 40 SENSE, 41 CML, 42 RBIAS, 43 VIN-B, 44 VIN+B, 45 AVDD, 46 AVDD, 47 SDIO/DCS, 48 SCLK/DFS, 49 CLK+, 50 CLK-, 51 CSB, 52 SYNC, 53 FD0B, 54 FD1B, 55 FD2B, 56 FD3B, 57 DVDD, 58 DNC, 59 DNC, 60 D0B, 61 D1B, 62 D2B, 63 D3B, 64 DRGND, 65 Termal_PAD hidden to GND

## AD9706
designator U?
pins: 1 DB5, 2 DB4, 3 DVDD, 4 DB3, 5 DB2, 6 DB1, 7 DB0, 8 NC, 9 NC, 10 DCOM, 11 CLKVDD, 12 CLK+, 13 CLK-, 14 CLKCOM, 15 CMODE/SCLK, 16 MODE/SDIO, 17 PIN/SPI/RESET, 18 AVDD, 19 OTCM, 20 IOUTB (out), 21 IOUTA (out), 22 ACOM, 23 REFIO, 24 FS ADJ, 25 SLEEP/CSB, 26 DCOM, 27 DB11, 28 DB10, 29 DB9, 30 DB8, 31 DB7, 32 DB6

## AD9954
designator U
footprint TQFP48_PAD (TQFP 48 Leads with Exposed Pad)
pins: 1 I/O Update, 2 DVDD, 3 DGND (power), 4 AVDD (power), 5 AGND (power), 6 AVDD (power), 7 AGND (power), 8 #OSC/#REFCLK, 9 OSC/REFCLK, 10 CRYSTAL_OUT, 11 CLK_MS, 12 LOOP_Filter, 13 AVDD (power), 14 AGND (power), 15 AGND (power), 16 AVDD (power), 17 AGND (power), 18 AVDD (power), 19 AVDD (power), 20 #IOUT, 21 IOUT, 22 AGND (power), 23 DACBP, 24 DAC_R, 25 AVDD (power), 26 AGND (power), 27 AVDD (power), 28 COMP_OUT, 29 AVDD (power), 30 COMP_IN, 31 #COMP_IN, 32 AGND (power), 33 DGND (power), 34 DVDD (power), 35 PWRCTL, 36 RESET, 37 IOSYNC, 38 SDO, 39 #CS, 40 SCLK, 41 SDIO, 42 DGND (power), 43 DVDD_I/O, 44 SYNC_IN, 45 SYNC_CLK, 46 OSK, 47 PS0, 48 PS1, 49 GND (power) hidden to GND

## ADATE206
designator U?, comment ADATE206BSVZ
value: ADATE206BSVZ
footprint TQFP100SQ_160
pins: 1 VCOM1, 2 GNDREF1, 3 VIOH1, 4 VIOL1, 5 GND, 6 DR_INV1, 7 VIT1, 8 VIL1, 9 VIH1, 10 CLAMPL1, 11 CLAMPH1, 12 GND, 13 CLLM1, 14 LDEN1, 15 VTEN1, 16 Vee, 17 Vee, 18 Vcc, 19 Vcc, 20 GND, 21 GND, 22 DR_DATA_P1, 23 DR_DATA_PT1, 24 DR_DATA_NT1, 25 DR_DATA_N1, 26 DR_EN_P1, 27 DR_EN_PT1, 28 DR_EN_NT1, 29 DR_EN_N1, 30 NC, 31 COMP_HP1, 32 COMP_HN1, 33 Vee, 34 COMP_LP1, 35 COMP_LN1, 36 GND, 37 SLEW1, 38 CMOS_Vdd, 39 SLEW0, 40 GND, 41 COMP_LN2, 42 COMP_LP2, 43 Vee, 44 COMP_HN2, 45 COMP_HP2, 46 NC, 47 DR_EN_N2, 48 DR_EN_NT2, 49 DR_EN_PT2, 50 DR_EN_P2, 51 DR_DATA_N2, 52 DR_DATA_NT2, 53 DR_DATA_PT2, 54 DR_DATA_P2, 55 GND, 56 GND, 57 Vcc, 58 Vcc, 59 Vee, 60 Vee, 61 VTEN2, 62 LDEN2, 63 CLLM2, 64 GND, 65 CLAMPL2, 66 CLAMPH2, 67 VIH2, 68 VIL2, 69 VIT2, 70 DR_INV2, 71 GND, 72 VIOL2, 73 VIOH2, 74 GNDREF2, 75 VCOM2, 76 GND, 77 Vcc, 78 Vcc, 79 GND, 80 GND/SH, 81 DUT2, 82 GND/SH, 83 GND, 84 Vee, 85 CVH2, 86 CVL2, 87 Vee, 88 TEMP, 89 Vcc, 90 CVL1, 91 CVH1, 92 Vee, 93 GND, 94 GND/SH, 95 DUT1, 96 GND/SH, 97 GND, 98 Vcc, 99 Vcc, 100 GND

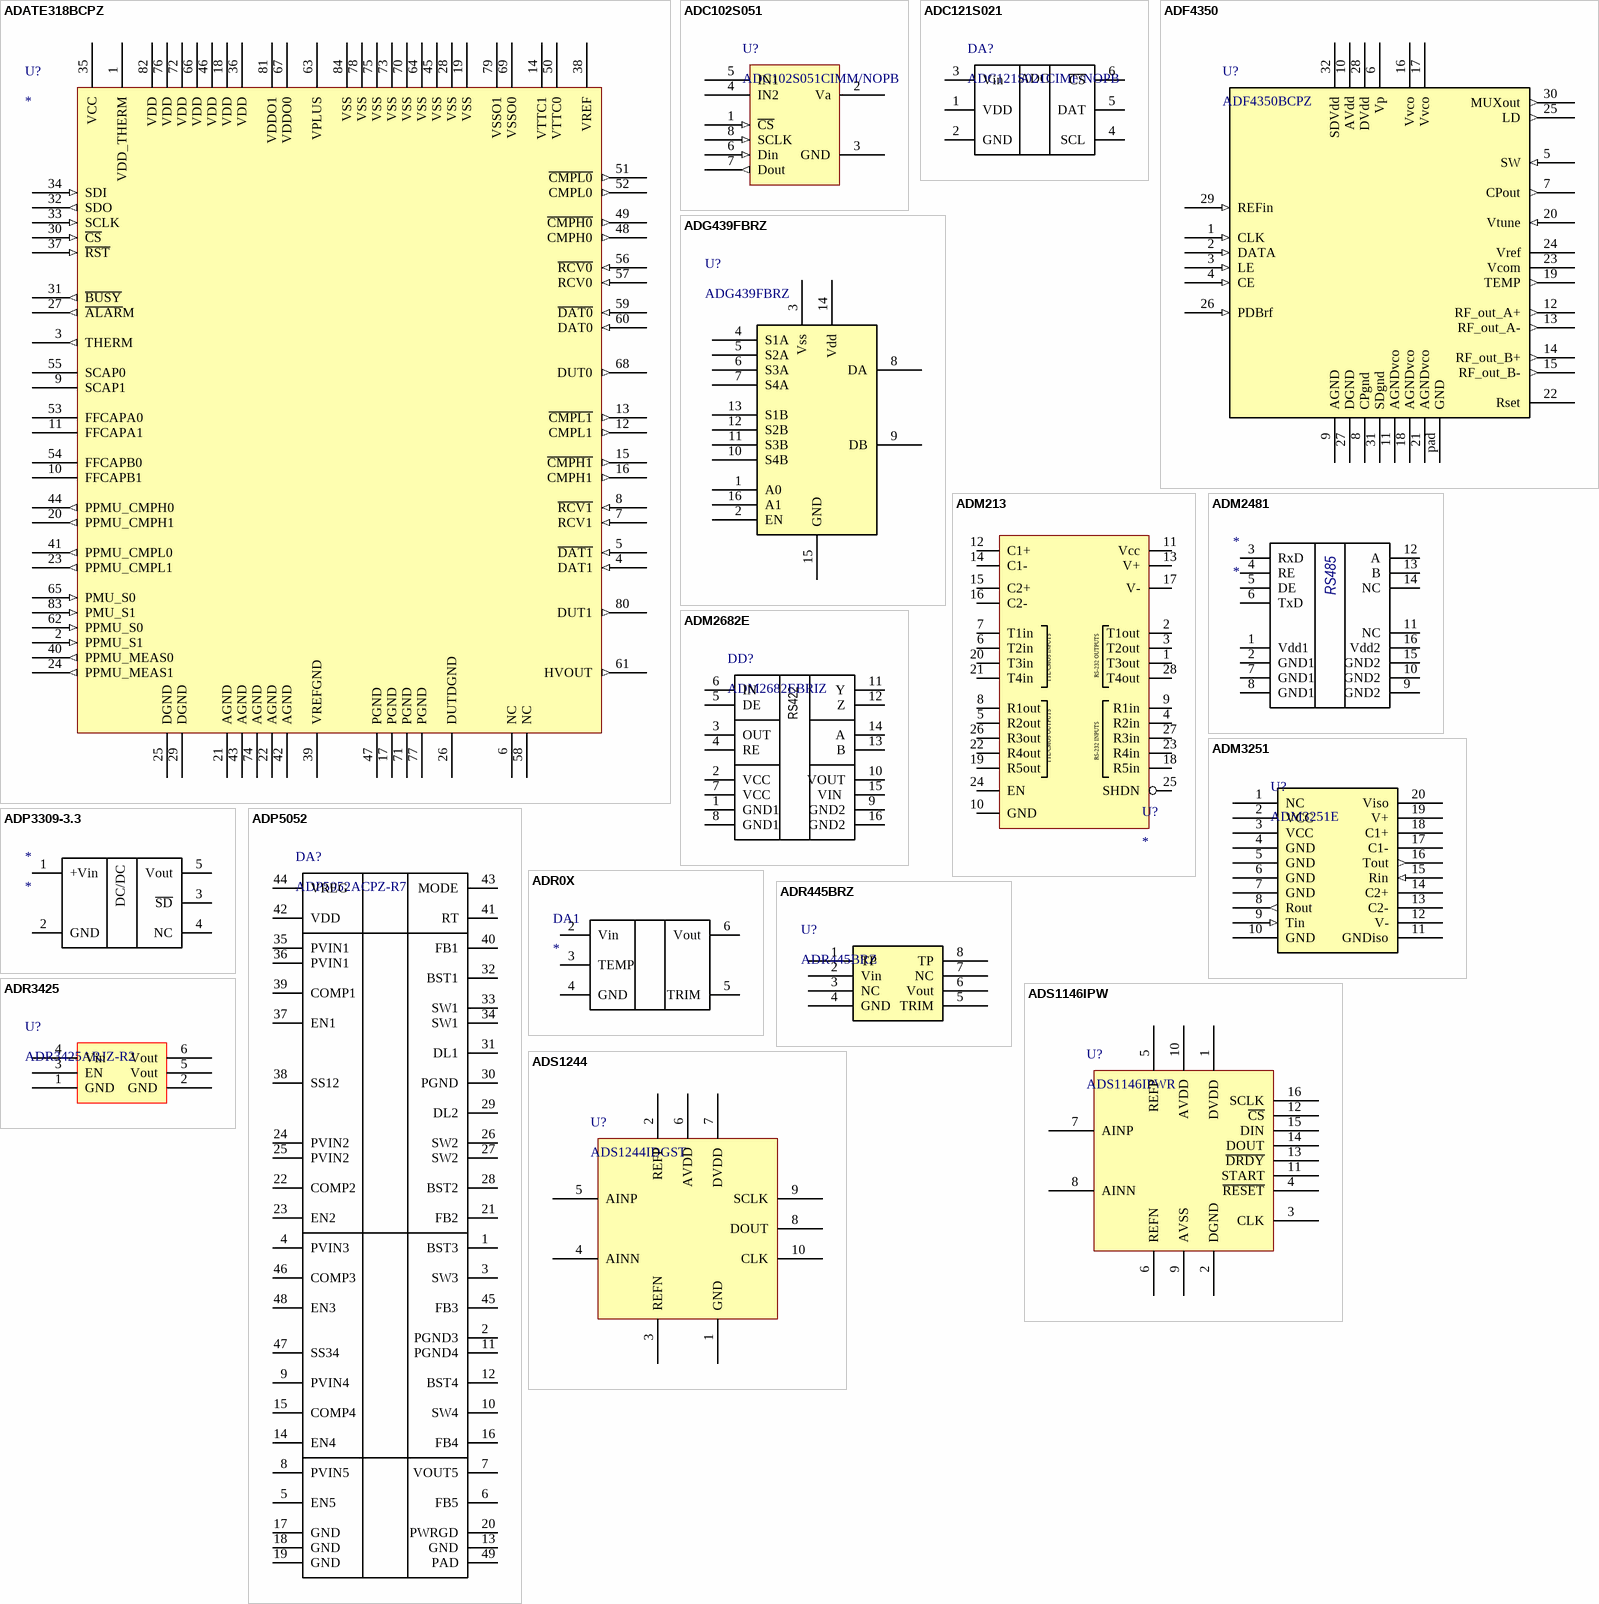
[diagram p8: symbols ADATE318BCPZ to ADS1244]

## ADATE318BCPZ
designator U?
RefDes: RefDes; Type: DEV; Value: Value
footprint CP-84-2
pins: 1 VDD_THERM (power), 2 PPMU_S1 (in), 3 THERM (out), 4 DAT1 (in), 5 ~{DAT1} (in), 6 NC, 7 RCV1 (in), 8 ~{RCV1} (in), 9 SCAP1, 10 FFCAPB1, 11 FFCAPA1, 12 CMPL1 (out), 13 ~{CMPL1} (out), 14 VTTC1 (power), 15 ~{CMPH1} (out), 16 CMPH1 (out), 17 PGND (power), 18 VDD (power), 19 VSS (power), 20 PPMU_CMPH1 (out), 21 AGND (power), 22 AGND (power), 23 PPMU_CMPL1 (out), 24 PPMU_MEAS1 (out), 25 DGND (power), 26 DUTDGND (power), 27 ~{ALAR}M (out), 28 VSS (power), 29 DGND (power), 30 ~{CS} (in), 31 ~{BUSY} (out), 32 SDO (out), 33 SCLK (in), 34 SDI (in), 35 VCC (power), 36 VDD (power), 37 ~{RST} (in), 38 VREF (power), 39 VREFGND (power), 40 PPMU_MEAS0 (out), 41 PPMU_CMPL0 (out), 42 AGND (power), 43 AGND (power), 44 PPMU_CMPH0 (out), 45 VSS (power), 46 VDD (power), 47 PGND (power), 48 CMPH0 (out), 49 ~{CMPH0} (out), 50 VTTC0 (power), 51 ~{CMPL0} (out), 52 CMPL0 (out), 53 FFCAPA0, 54 FFCAPB0, 55 SCAP0, 56 ~{RCV0} (in), 57 RCV0 (in), 58 NC, 59 ~{DAT0} (in), 60 DAT0 (in), 61 HVOUT (out), 62 PPMU_S0 (in), 63 VPLUS (power), 64 VSS (power), 65 PMU_S0 (in), 66 VDD (power), 67 VDDO0 (power), 68 DUT0 (out), 69 VSSO0 (power), 70 VSS (power), 71 PGND (power), 72 VDD (power), 73 VSS (power), 74 AGND (power), 75 VSS (power), 76 VDD (power), 77 PGND (power), 78 VSS (power), 79 VSSO1 (power), 80 DUT1 (out), 81 VDDO1 (power), 82 VDD (power), 83 PMU_S1 (in), 84 VSS (power)

## ADC102S051
designator U?, comment ADC102S051CIMM/NOPB
2  Channel,  200  ksps  to  500  ksps,  10-Bit  A/D  Converter; value: ADC102S051CIMM/NOPB
footprint uSOP8
pins: 1 ~{CS} (in), 2 Va (power), 3 GND (power), 4 IN2 (power), 5 IN1 (power), 6 Din (in), 7 Dout (out), 8 SCLK (in)

## ADC121S021
designator DA?, comment ADC121S021CIMF/NOPB
Single-Channel,  50- to 200-ksps,  12-Bit  A/D Converter; value: ADC121S021CIMF/NOPB; rus_value: *
footprint SOT-23-6 (SOT-23 5pin)
pins: 1 VDD, 2 GND, 3 Vin, 4 SCL, 5 DAT, 6 ~{CS}
text: ADC

## ADF4350
designator U?, comment ADF4350BCPZ
value: ADF4350BCPZ
pins: 1 CLK (in), 2 DATA (in), 3 LE (in), 4 CE (in), 5 SW (in), 6 Vp (power), 7 CPout (out), 8 CPgnd (power), 9 AGND (power), 10 AVdd (power), 11 AGNDvco (power), 12 RF_out_A+ (out), 13 RF_out_A- (out), 14 RF_out_B+ (out), 15 RF_out_B- (out), 16 Vvco (power), 17 Vvco (power), 18 AGNDvco (power), 19 TEMP (out), 20 Vtune (in), 21 AGNDvco (power), 22 Rset (power), 23 Vcom (power), 24 Vref (power), 25 LD (out), 26 PDBrf (in), 27 DGND (power), 28 DVdd (power), 29 REFin (in), 30 MUXout (out), 31 SDgnd (power), 32 SDVdd (power), pad GND (power)

## ADG439FBRZ
designator U?
value: ADG439FBRZ
footprint SO16
pins: 1 A0, 2 EN, 3 Vss, 4 S1A, 5 S2A, 6 S3A, 7 S4A, 8 DA, 9 DB, 10 S4B, 11 S3B, 12 S2B, 13 S1B, 14 Vdd, 15 GND, 16 A1

## ADM213
designator U?
SOIC28: ADM213EARZ; SSOP28: ADM213EARSZ
pins: 1 T3out, 2 T1out, 3 T2out, 4 R2in, 5 R2out, 6 T2in, 7 T1in, 8 R1out, 9 R1in, 10 GND (power), 11 Vcc (power), 12 C1+, 13 V+, 14 C1-, 15 C2+, 16 C2-, 17 V-, 18 R5in, 19 R5out, 20 T3in, 21 T4in, 22 R4out, 23 R4in, 24 EN, 25 SHDN, 26 R3out, 27 R3in, 28 T4out
text: RS-232 OUTPUTS; TTL/CMOS INPUTS; TTL/CMOS OUTPUTS; RS-232 INPUTS

## ADM2481
designator *
pins: 1 Vdd1, 2 GND1 , 3 RxD , 4 RE, 5 DE, 6 TxD , 7 GND1, 8 GND1, 9 GND2, 10 GND2, 11 NC, 12 A, 13 B, 14 NC, 15 GND2, 16 Vdd2
text: RS485